# Altium schematic symbol library con-cpci.SCHLIB: 19 symbols (part 1 of 2)
Pins are listed as number, name and electrical type; pins without a type are passive.

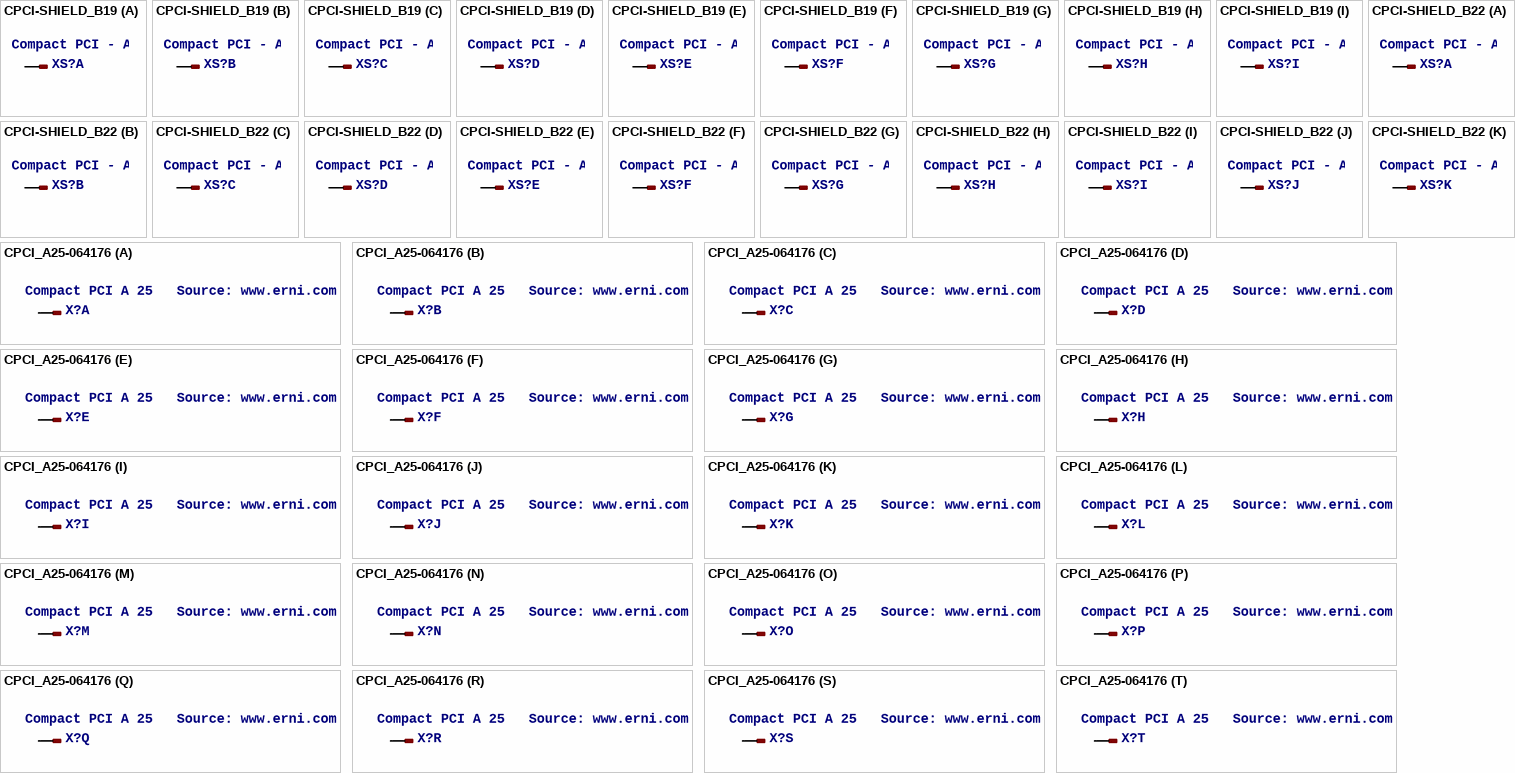
[diagram p0: symbols CPCI-SHIELD_B19 to CPCI_A25-064176]

## CPCI-SHIELD_B19
designator XS?, comment Compact PCI - Abschirmblech unten B 19 / Lower Shield Type B 19   Source: www.erni.com
OC_FARNELL: unknown; OC_NEWARK: unknown
footprint 064782
part A pins: S1 1
part B pins: S2 1
part C pins: S3 1
part D pins: S4 1
part E pins: S5 1
part F pins: S6 1
part G pins: S7 1
part H pins: S8 1
part I pins: S9 1

## CPCI-SHIELD_B22
designator XS?, comment Compact PCI - Abschirmblech unten B 22 / Lower Shield Type B 22   Source: www.erni.com
OC_FARNELL: unknown; OC_NEWARK: unknown
footprint 064783
part A pins: S1 1
part B pins: S2 1
part C pins: S3 1
part D pins: S4 1
part E pins: S5 1
part F pins: S6 1
part G pins: S7 1
part H pins: S8 1
part I pins: S9 1
part J pins: S10 1
part K pins: S11 1

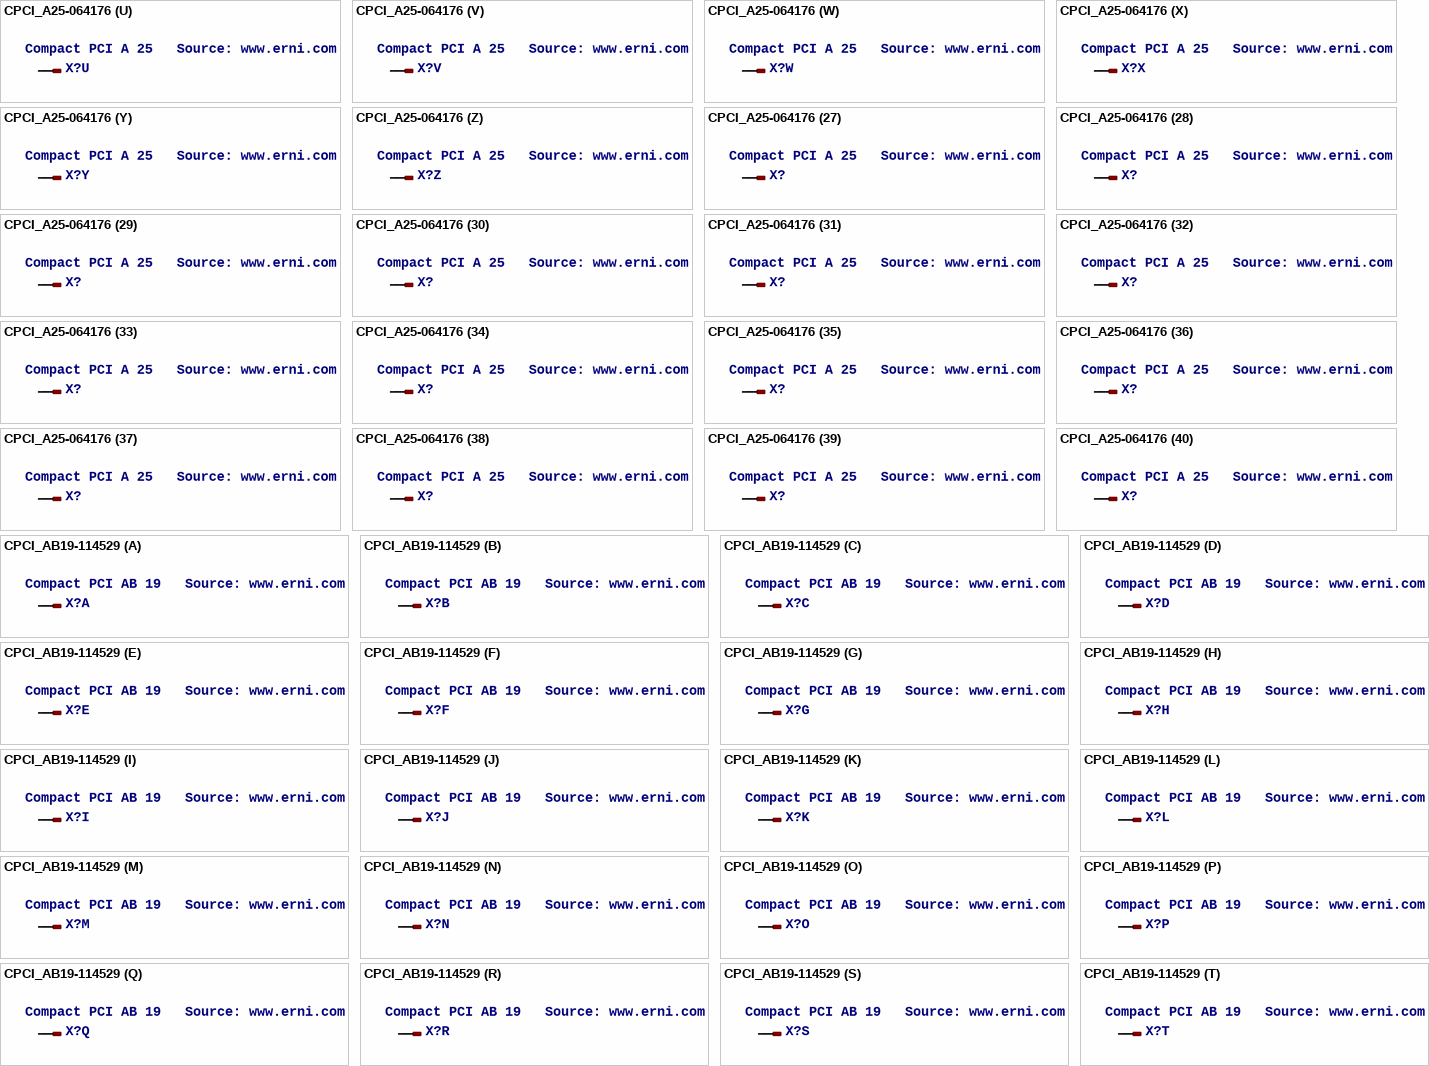
[diagram p1: symbols CPCI_A25-064176 to CPCI_AB19-114529]

## CPCI_A25-064176
designator X?, comment Compact PCI A 25   Source: www.erni.com
OC_FARNELL: unknown; OC_NEWARK: unknown
footprint 064176
part A pins: A1 1
part B pins: B1 1
part C pins: C1 1
part D pins: D1 1
part E pins: E1 1
part F pins: A2 1
part G pins: A3 1
part H pins: A4 1
part I pins: A5 1
part J pins: A6 1
part K pins: A7 1
part L pins: A8 1
part M pins: A9 1
part N pins: A10 1
part O pins: A11 1
part P pins: A15 1
part Q pins: A16 1
part R pins: A17 1
part S pins: A18 1
part T pins: A19 1
part U pins: A20 1
part V pins: A21 1
part W pins: A22 1
part X pins: A23 1
part Y pins: A24 1
part Z pins: A25 1
part 27 pins: B2 1
part 28 pins: B3 1
part 29 pins: B4 1
part 30 pins: B5 1
part 31 pins: B6 1
part 32 pins: B7 1
part 33 pins: B8 1
part 34 pins: B9 1
part 35 pins: B10 1
part 36 pins: B11 1
part 37 pins: B15 1
part 38 pins: B16 1
part 39 pins: B17 1
part 40 pins: B18 1
part 41 pins: B19 1
part 42 pins: B20 1
part 43 pins: B21 1
part 44 pins: B22 1
part 45 pins: B23 1
part 46 pins: B24 1
part 47 pins: B25 1
part 48 pins: C2 1
part 49 pins: C3 1
part 50 pins: C4 1
part 51 pins: C5 1
part 52 pins: C6 1
part 53 pins: C7 1
part 54 pins: C8 1
part 55 pins: C9 1
part 56 pins: C10 1
part 57 pins: C11 1
part 58 pins: C15 1
part 59 pins: C16 1
part 60 pins: C17 1
part 61 pins: C18 1
part 62 pins: C19 1
part 63 pins: C20 1
part 64 pins: C21 1
part 65 pins: C22 1
part 66 pins: C23 1
part 67 pins: C24 1
part 68 pins: C25 1
part 69 pins: D2 1
part 70 pins: D3 1
part 71 pins: D4 1
part 72 pins: D5 1
part 73 pins: D6 1
part 74 pins: D7 1
part 75 pins: D8 1
part 76 pins: D9 1
part 77 pins: D10 1
part 78 pins: D11 1
part 79 pins: D15 1
part 80 pins: D16 1
part 81 pins: D17 1
part 82 pins: D18 1
part 83 pins: D19 1
part 84 pins: D20 1
part 85 pins: D21 1
part 86 pins: D22 1
part 87 pins: D23 1
part 88 pins: D24 1
part 89 pins: D25 1
part 90 pins: E2 1
part 91 pins: E3 1
part 92 pins: E4 1
part 93 pins: E5 1
part 94 pins: E6 1
part 95 pins: E7 1
part 96 pins: E8 1
part 97 pins: E9 1
part 98 pins: E10 1
part 99 pins: E11 1
part 100 pins: E15 1
part 101 pins: E16 1
part 102 pins: E17 1
part 103 pins: E18 1
part 104 pins: E19 1
part 105 pins: E20 1
part 106 pins: E21 1
part 107 pins: E22 1
part 108 pins: E23 1
part 109 pins: E24 1
part 110 pins: E25 1

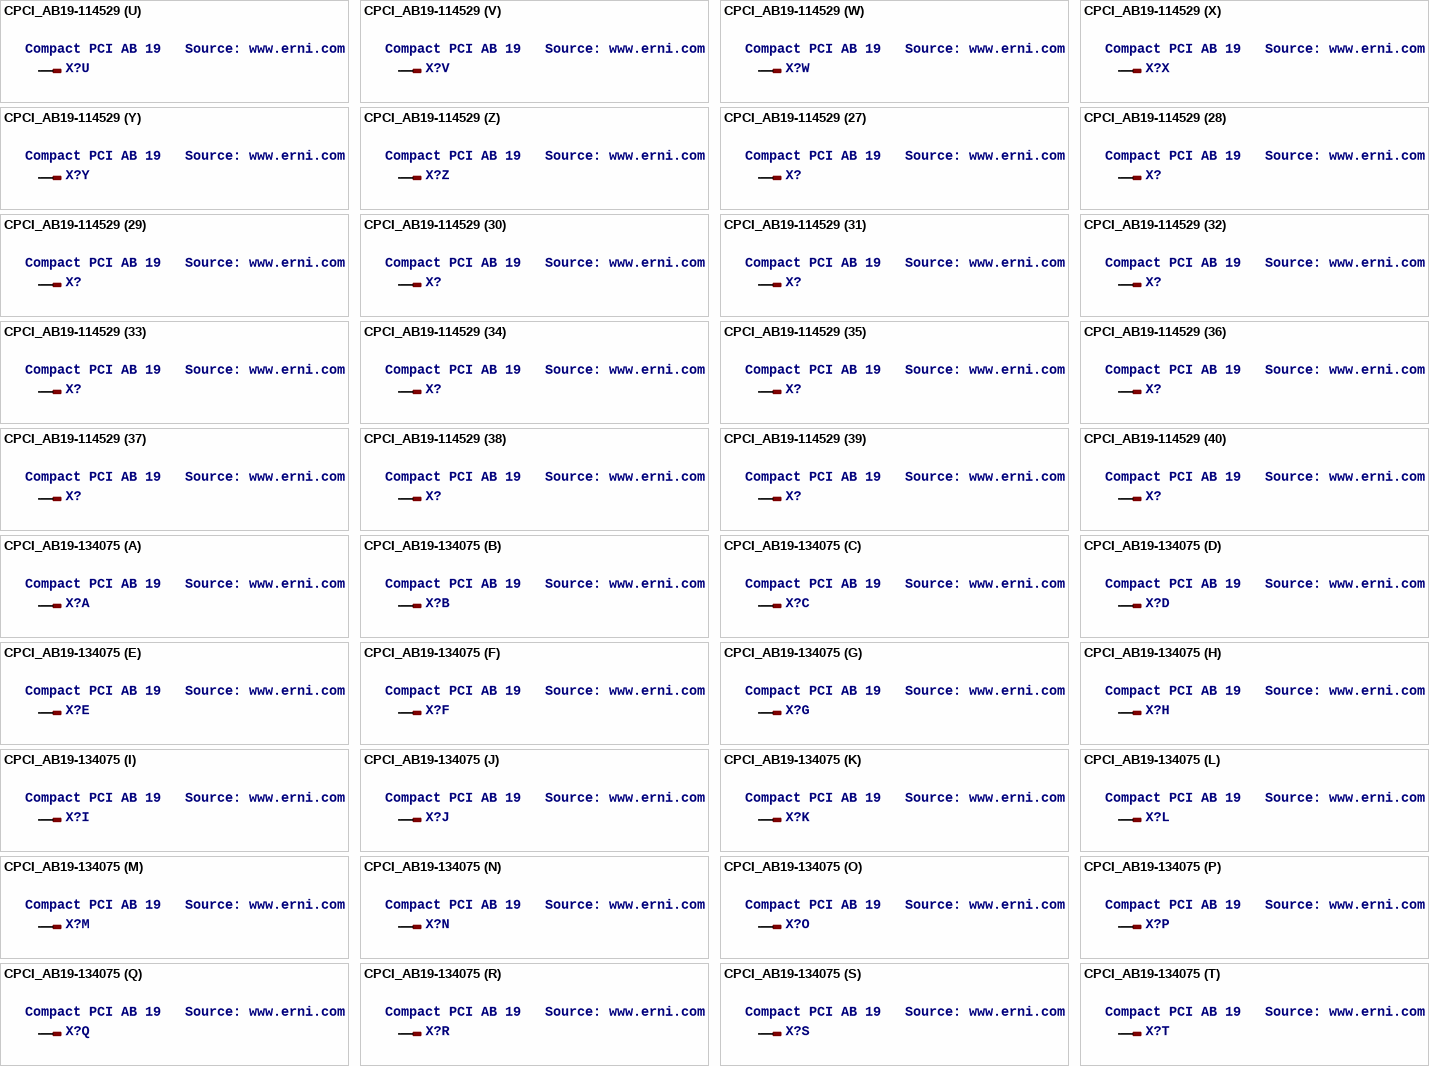
[diagram p2: symbols CPCI_AB19-114529 to CPCI_AB19-134075]

## CPCI_AB19-114529
designator X?, comment Compact PCI AB 19   Source: www.erni.com
OC_FARNELL: unknown; OC_NEWARK: unknown
footprint 114529
part A pins: A1 1
part B pins: B1 1
part C pins: C1 1
part D pins: D1 1
part E pins: E1 1
part F pins: A2 1
part G pins: A3 1
part H pins: A4 1
part I pins: A5 1
part J pins: A6 1
part K pins: A7 1
part L pins: A8 1
part M pins: A9 1
part N pins: A10 1
part O pins: A11 1
part P pins: A12 1
part Q pins: A13 1
part R pins: A14 1
part S pins: A15 1
part T pins: A16 1
part U pins: A17 1
part V pins: A18 1
part W pins: A19 1
part X pins: B2 1
part Y pins: B3 1
part Z pins: B4 1
part 27 pins: B5 1
part 28 pins: B6 1
part 29 pins: B7 1
part 30 pins: B8 1
part 31 pins: B9 1
part 32 pins: B10 1
part 33 pins: B11 1
part 34 pins: B12 1
part 35 pins: B13 1
part 36 pins: B14 1
part 37 pins: B15 1
part 38 pins: B16 1
part 39 pins: B17 1
part 40 pins: B18 1
part 41 pins: B19 1
part 42 pins: C2 1
part 43 pins: C3 1
part 44 pins: C4 1
part 45 pins: C5 1
part 46 pins: C6 1
part 47 pins: C7 1
part 48 pins: C8 1
part 49 pins: C9 1
part 50 pins: C10 1
part 51 pins: C11 1
part 52 pins: C12 1
part 53 pins: C13 1
part 54 pins: C14 1
part 55 pins: C15 1
part 56 pins: C16 1
part 57 pins: C17 1
part 58 pins: C18 1
part 59 pins: C19 1
part 60 pins: D2 1
part 61 pins: D3 1
part 62 pins: D4 1
part 63 pins: D5 1
part 64 pins: D6 1
part 65 pins: D7 1
part 66 pins: D8 1
part 67 pins: D9 1
part 68 pins: D10 1
part 69 pins: D11 1
part 70 pins: D12 1
part 71 pins: D13 1
part 72 pins: D14 1
part 73 pins: D15 1
part 74 pins: D16 1
part 75 pins: D17 1
part 76 pins: D18 1
part 77 pins: D19 1
part 78 pins: E2 1
part 79 pins: E3 1
part 80 pins: E4 1
part 81 pins: E5 1
part 82 pins: E6 1
part 83 pins: E7 1
part 84 pins: E8 1
part 85 pins: E9 1
part 86 pins: E10 1
part 87 pins: E11 1
part 88 pins: E12 1
part 89 pins: E13 1
part 90 pins: E14 1
part 91 pins: E15 1
part 92 pins: E16 1
part 93 pins: E17 1
part 94 pins: E18 1
part 95 pins: E19 1

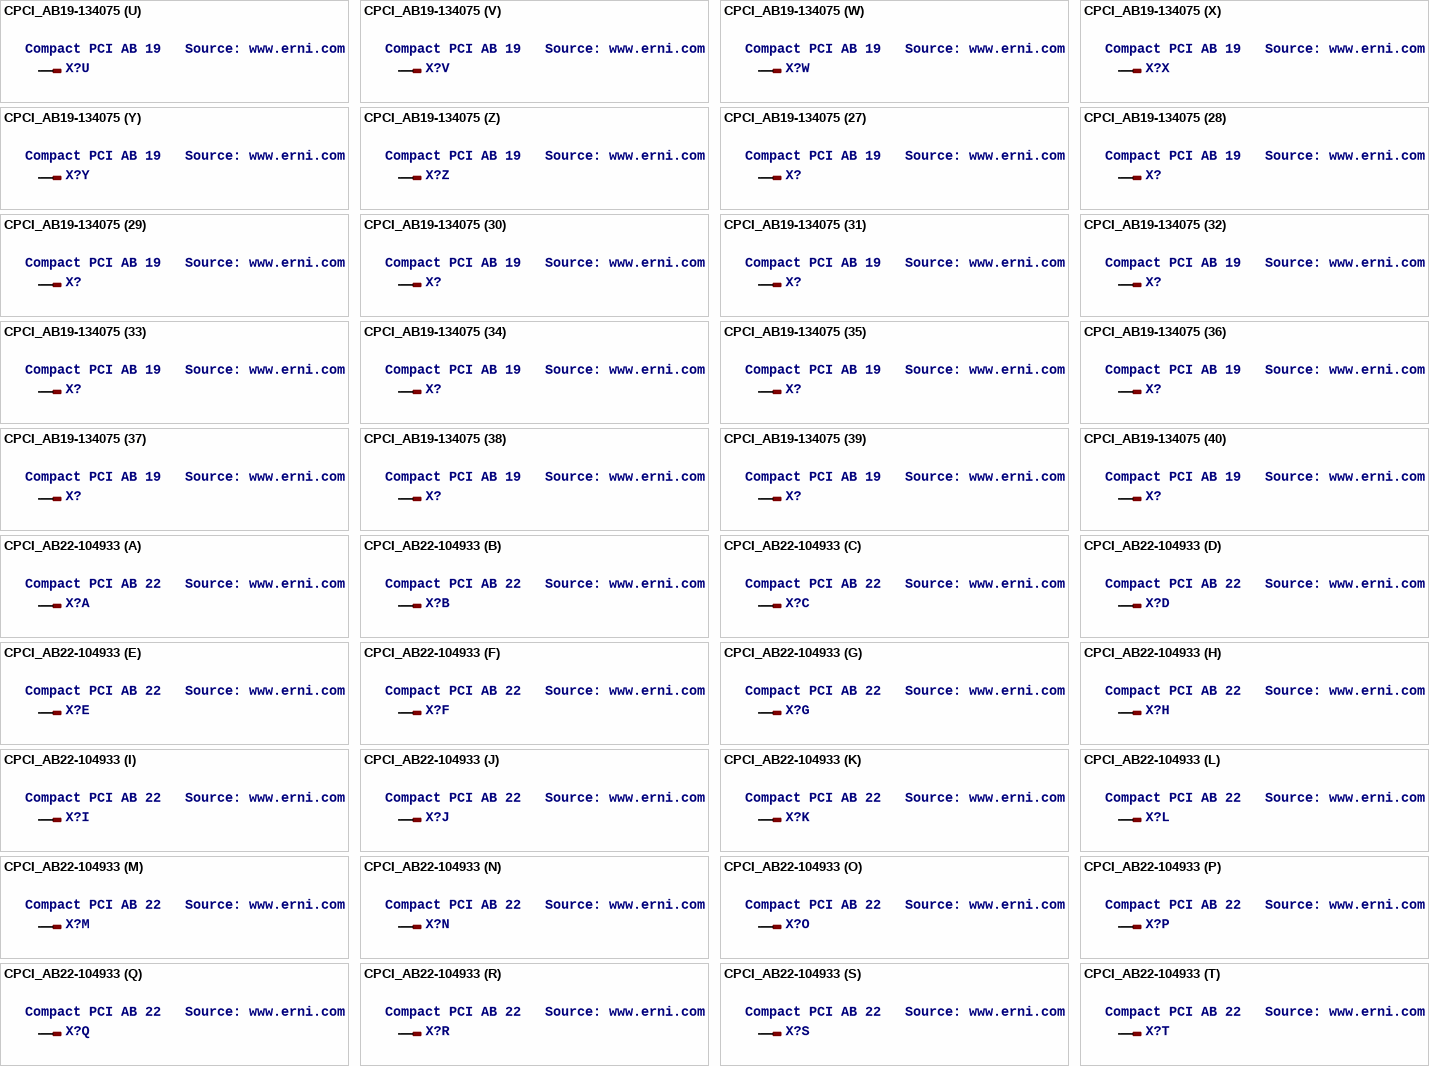
[diagram p3: symbols CPCI_AB19-134075 to CPCI_AB22-104933]

## CPCI_AB19-134075
designator X?, comment Compact PCI AB 19   Source: www.erni.com
OC_FARNELL: unknown; OC_NEWARK: unknown
footprint 134075
part A pins: A1 1
part B pins: B1 1
part C pins: C1 1
part D pins: D1 1
part E pins: E1 1
part F pins: A2 1
part G pins: A3 1
part H pins: A4 1
part I pins: A5 1
part J pins: A6 1
part K pins: A7 1
part L pins: A8 1
part M pins: A9 1
part N pins: A10 1
part O pins: A11 1
part P pins: A12 1
part Q pins: A13 1
part R pins: A14 1
part S pins: A15 1
part T pins: A16 1
part U pins: A17 1
part V pins: A18 1
part W pins: A19 1
part X pins: B2 1
part Y pins: B3 1
part Z pins: B4 1
part 27 pins: B5 1
part 28 pins: B6 1
part 29 pins: B7 1
part 30 pins: B8 1
part 31 pins: B9 1
part 32 pins: B10 1
part 33 pins: B11 1
part 34 pins: B12 1
part 35 pins: B13 1
part 36 pins: B14 1
part 37 pins: B15 1
part 38 pins: B16 1
part 39 pins: B17 1
part 40 pins: B18 1
part 41 pins: B19 1
part 42 pins: C2 1
part 43 pins: C3 1
part 44 pins: C4 1
part 45 pins: C5 1
part 46 pins: C6 1
part 47 pins: C7 1
part 48 pins: C8 1
part 49 pins: C9 1
part 50 pins: C10 1
part 51 pins: C11 1
part 52 pins: C12 1
part 53 pins: C13 1
part 54 pins: C14 1
part 55 pins: C15 1
part 56 pins: C16 1
part 57 pins: C17 1
part 58 pins: C18 1
part 59 pins: C19 1
part 60 pins: D2 1
part 61 pins: D3 1
part 62 pins: D4 1
part 63 pins: D5 1
part 64 pins: D6 1
part 65 pins: D7 1
part 66 pins: D8 1
part 67 pins: D9 1
part 68 pins: D10 1
part 69 pins: D11 1
part 70 pins: D12 1
part 71 pins: D13 1
part 72 pins: D14 1
part 73 pins: D15 1
part 74 pins: D16 1
part 75 pins: D17 1
part 76 pins: D18 1
part 77 pins: D19 1
part 78 pins: E2 1
part 79 pins: E3 1
part 80 pins: E4 1
part 81 pins: E5 1
part 82 pins: E6 1
part 83 pins: E7 1
part 84 pins: E8 1
part 85 pins: E9 1
part 86 pins: E10 1
part 87 pins: E11 1
part 88 pins: E12 1
part 89 pins: E13 1
part 90 pins: E14 1
part 91 pins: E15 1
part 92 pins: E16 1
part 93 pins: E17 1
part 94 pins: E18 1
part 95 pins: E19 1

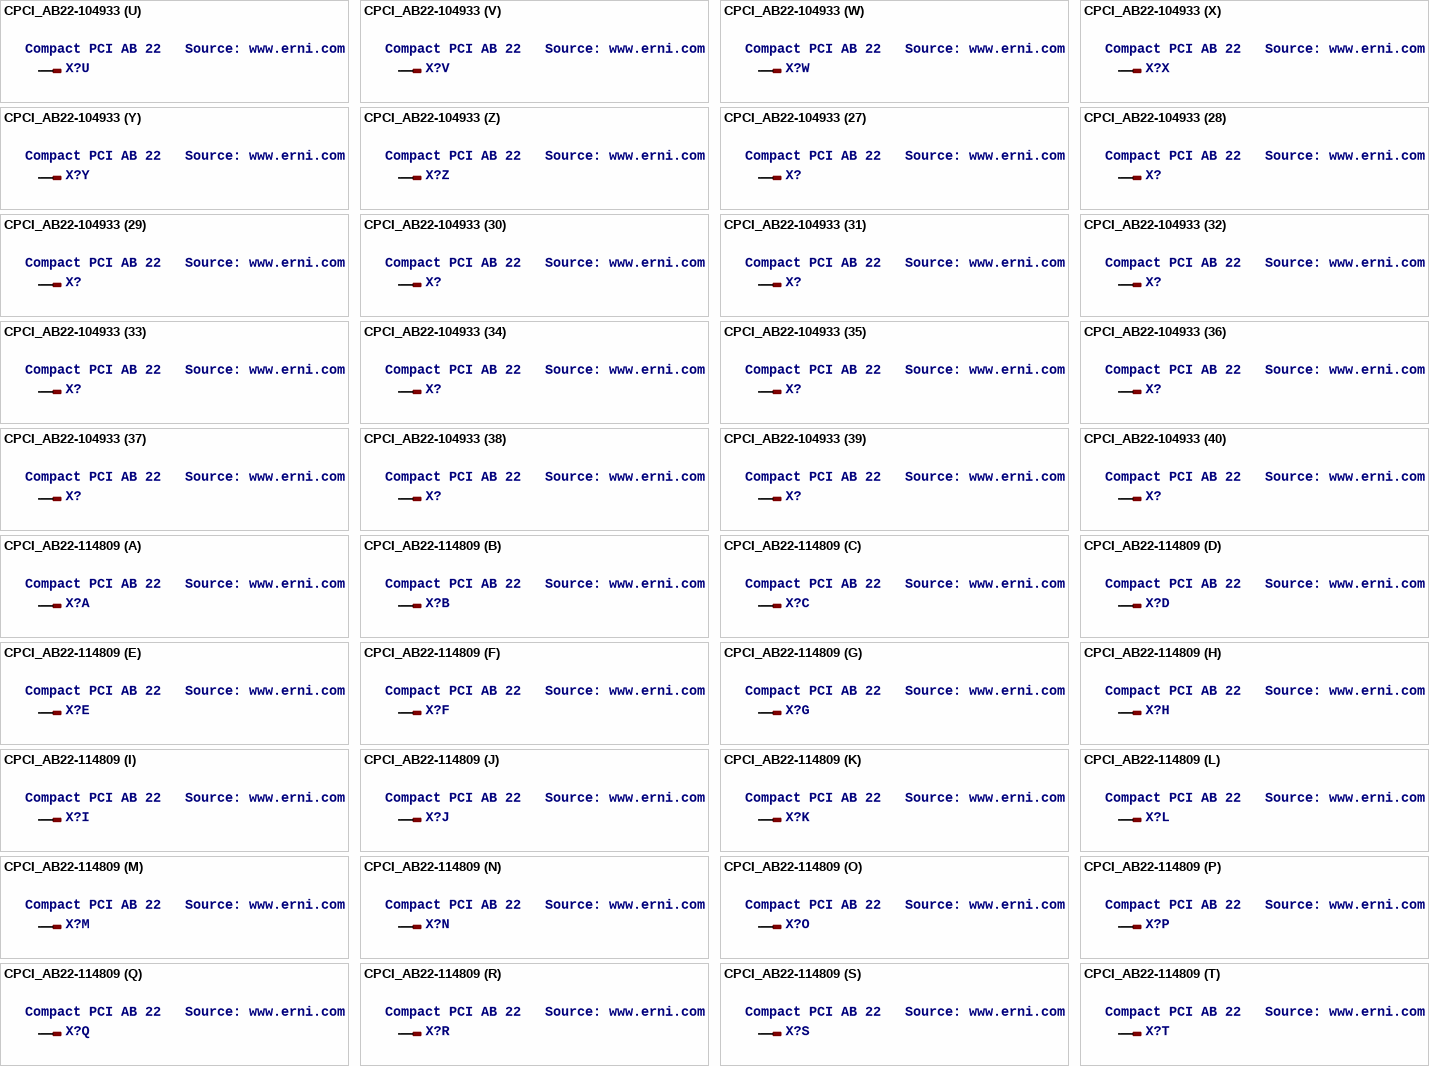
[diagram p4: symbols CPCI_AB22-104933 to CPCI_AB22-114809]

## CPCI_AB22-104933
designator X?, comment Compact PCI AB 22   Source: www.erni.com
OC_FARNELL: unknown; OC_NEWARK: unknown
footprint 104933
part A pins: A1 1
part B pins: B1 1
part C pins: C1 1
part D pins: D1 1
part E pins: E1 1
part F pins: A2 1
part G pins: A3 1
part H pins: A4 1
part I pins: A5 1
part J pins: A6 1
part K pins: A7 1
part L pins: A8 1
part M pins: A9 1
part N pins: A10 1
part O pins: A11 1
part P pins: A12 1
part Q pins: A13 1
part R pins: A14 1
part S pins: A15 1
part T pins: A16 1
part U pins: A17 1
part V pins: A18 1
part W pins: A19 1
part X pins: A20 1
part Y pins: A21 1
part Z pins: A22 1
part 27 pins: B2 1
part 28 pins: B3 1
part 29 pins: B4 1
part 30 pins: B5 1
part 31 pins: B6 1
part 32 pins: B7 1
part 33 pins: B8 1
part 34 pins: B9 1
part 35 pins: B10 1
part 36 pins: B11 1
part 37 pins: B12 1
part 38 pins: B13 1
part 39 pins: B14 1
part 40 pins: B15 1
part 41 pins: B16 1
part 42 pins: B17 1
part 43 pins: B18 1
part 44 pins: B19 1
part 45 pins: B20 1
part 46 pins: B21 1
part 47 pins: B22 1
part 48 pins: C2 1
part 49 pins: C3 1
part 50 pins: C4 1
part 51 pins: C5 1
part 52 pins: C6 1
part 53 pins: C7 1
part 54 pins: C8 1
part 55 pins: C9 1
part 56 pins: C10 1
part 57 pins: C11 1
part 58 pins: C12 1
part 59 pins: C13 1
part 60 pins: C14 1
part 61 pins: C15 1
part 62 pins: C16 1
part 63 pins: C17 1
part 64 pins: C18 1
part 65 pins: C19 1
part 66 pins: C20 1
part 67 pins: C21 1
part 68 pins: C22 1
part 69 pins: D2 1
part 70 pins: D3 1
part 71 pins: D4 1
part 72 pins: D5 1
part 73 pins: D6 1
part 74 pins: D7 1
part 75 pins: D8 1
part 76 pins: D9 1
part 77 pins: D10 1
part 78 pins: D11 1
part 79 pins: D12 1
part 80 pins: D13 1
part 81 pins: D14 1
part 82 pins: D15 1
part 83 pins: D16 1
part 84 pins: D17 1
part 85 pins: D18 1
part 86 pins: D19 1
part 87 pins: D20 1
part 88 pins: D21 1
part 89 pins: D22 1
part 90 pins: E2 1
part 91 pins: E3 1
part 92 pins: E4 1
part 93 pins: E5 1
part 94 pins: E6 1
part 95 pins: E7 1
part 96 pins: E8 1
part 97 pins: E9 1
part 98 pins: E10 1
part 99 pins: E11 1
part 100 pins: E12 1
part 101 pins: E13 1
part 102 pins: E14 1
part 103 pins: E15 1
part 104 pins: E16 1
part 105 pins: E17 1
part 106 pins: E18 1
part 107 pins: E19 1
part 108 pins: E20 1
part 109 pins: E21 1
part 110 pins: E22 1

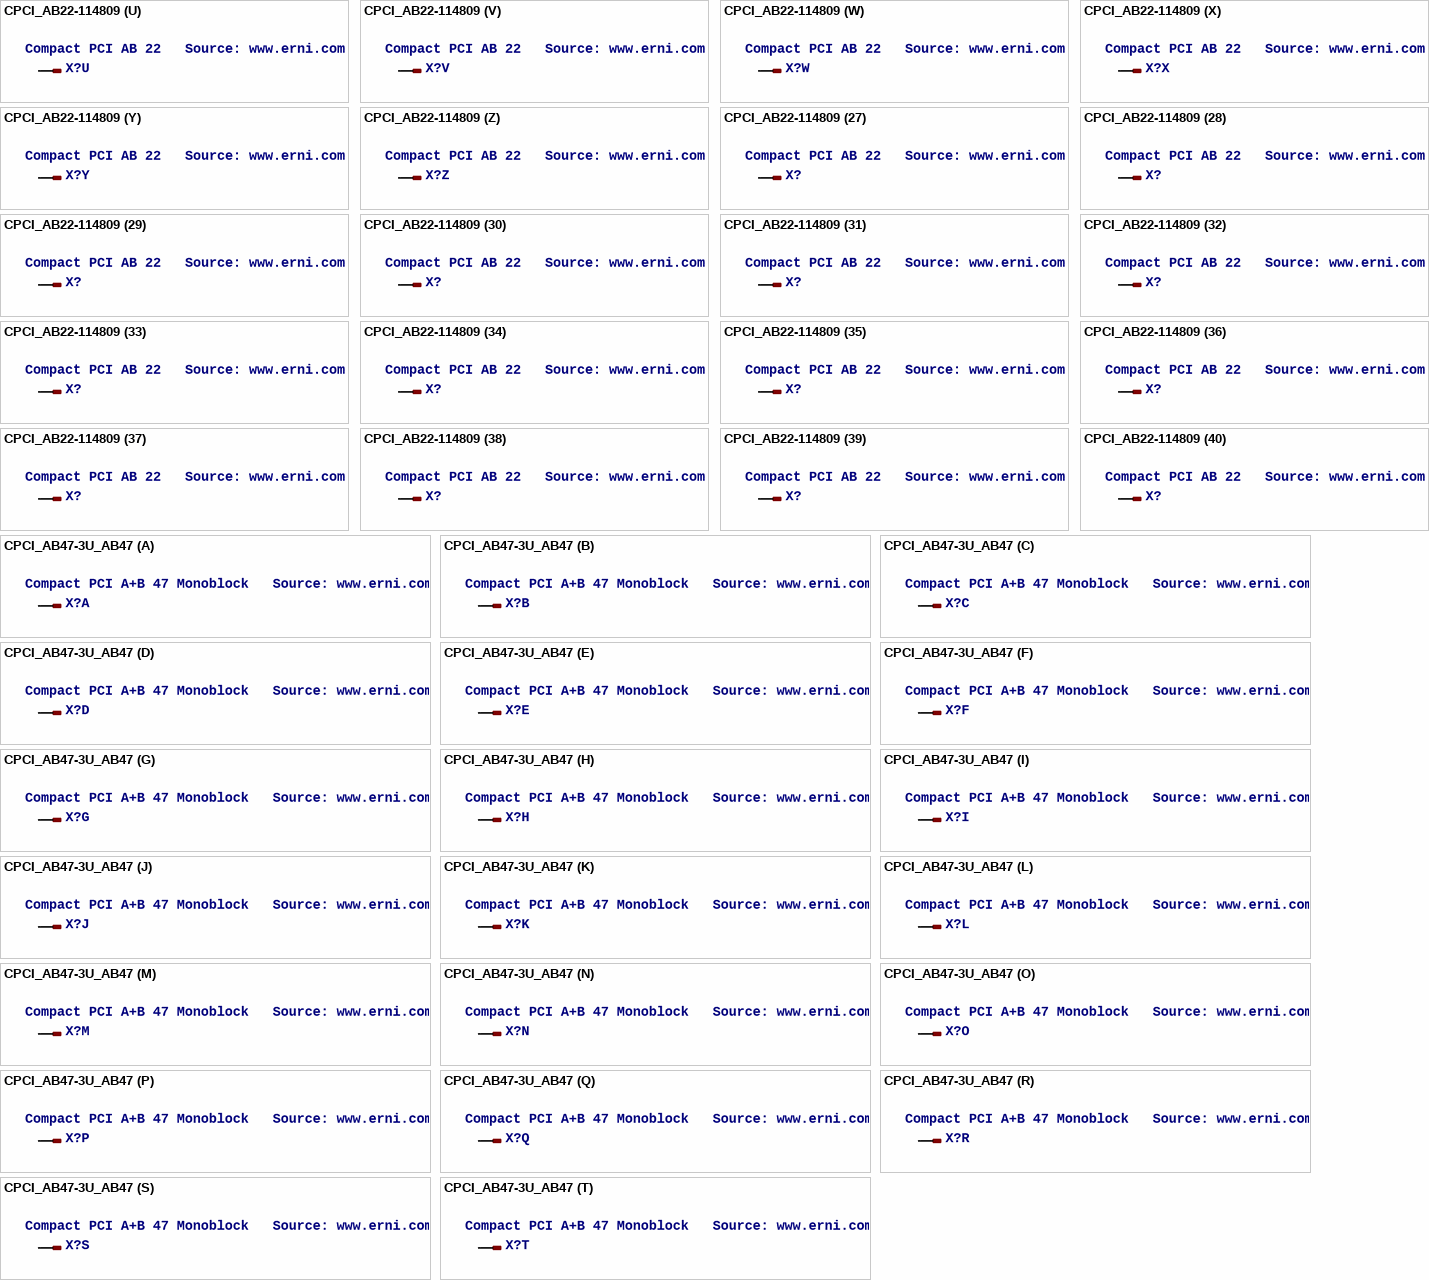
[diagram p5: symbols CPCI_AB22-114809 to CPCI_AB47-3U_AB47]

## CPCI_AB22-114809
designator X?, comment Compact PCI AB 22   Source: www.erni.com
OC_FARNELL: unknown; OC_NEWARK: unknown
footprint 114809
part A pins: A1 1
part B pins: B1 1
part C pins: C1 1
part D pins: D1 1
part E pins: E1 1
part F pins: A2 1
part G pins: A3 1
part H pins: A4 1
part I pins: A5 1
part J pins: A6 1
part K pins: A7 1
part L pins: A8 1
part M pins: A9 1
part N pins: A10 1
part O pins: A11 1
part P pins: A12 1
part Q pins: A13 1
part R pins: A14 1
part S pins: A15 1
part T pins: A16 1
part U pins: A17 1
part V pins: A18 1
part W pins: A19 1
part X pins: A20 1
part Y pins: A21 1
part Z pins: A22 1
part 27 pins: B2 1
part 28 pins: B3 1
part 29 pins: B4 1
part 30 pins: B5 1
part 31 pins: B6 1
part 32 pins: B7 1
part 33 pins: B8 1
part 34 pins: B9 1
part 35 pins: B10 1
part 36 pins: B11 1
part 37 pins: B12 1
part 38 pins: B13 1
part 39 pins: B14 1
part 40 pins: B15 1
part 41 pins: B16 1
part 42 pins: B17 1
part 43 pins: B18 1
part 44 pins: B19 1
part 45 pins: B20 1
part 46 pins: B21 1
part 47 pins: B22 1
part 48 pins: C2 1
part 49 pins: C3 1
part 50 pins: C4 1
part 51 pins: C5 1
part 52 pins: C6 1
part 53 pins: C7 1
part 54 pins: C8 1
part 55 pins: C9 1
part 56 pins: C10 1
part 57 pins: C11 1
part 58 pins: C12 1
part 59 pins: C13 1
part 60 pins: C14 1
part 61 pins: C15 1
part 62 pins: C16 1
part 63 pins: C17 1
part 64 pins: C18 1
part 65 pins: C19 1
part 66 pins: C20 1
part 67 pins: C21 1
part 68 pins: C22 1
part 69 pins: D2 1
part 70 pins: D3 1
part 71 pins: D4 1
part 72 pins: D5 1
part 73 pins: D6 1
part 74 pins: D7 1
part 75 pins: D8 1
part 76 pins: D9 1
part 77 pins: D10 1
part 78 pins: D11 1
part 79 pins: D12 1
part 80 pins: D13 1
part 81 pins: D14 1
part 82 pins: D15 1
part 83 pins: D16 1
part 84 pins: D17 1
part 85 pins: D18 1
part 86 pins: D19 1
part 87 pins: D20 1
part 88 pins: D21 1
part 89 pins: D22 1
part 90 pins: E2 1
part 91 pins: E3 1
part 92 pins: E4 1
part 93 pins: E5 1
part 94 pins: E6 1
part 95 pins: E7 1
part 96 pins: E8 1
part 97 pins: E9 1
part 98 pins: E10 1
part 99 pins: E11 1
part 100 pins: E12 1
part 101 pins: E13 1
part 102 pins: E14 1
part 103 pins: E15 1
part 104 pins: E16 1
part 105 pins: E17 1
part 106 pins: E18 1
part 107 pins: E19 1
part 108 pins: E20 1
part 109 pins: E21 1
part 110 pins: E22 1

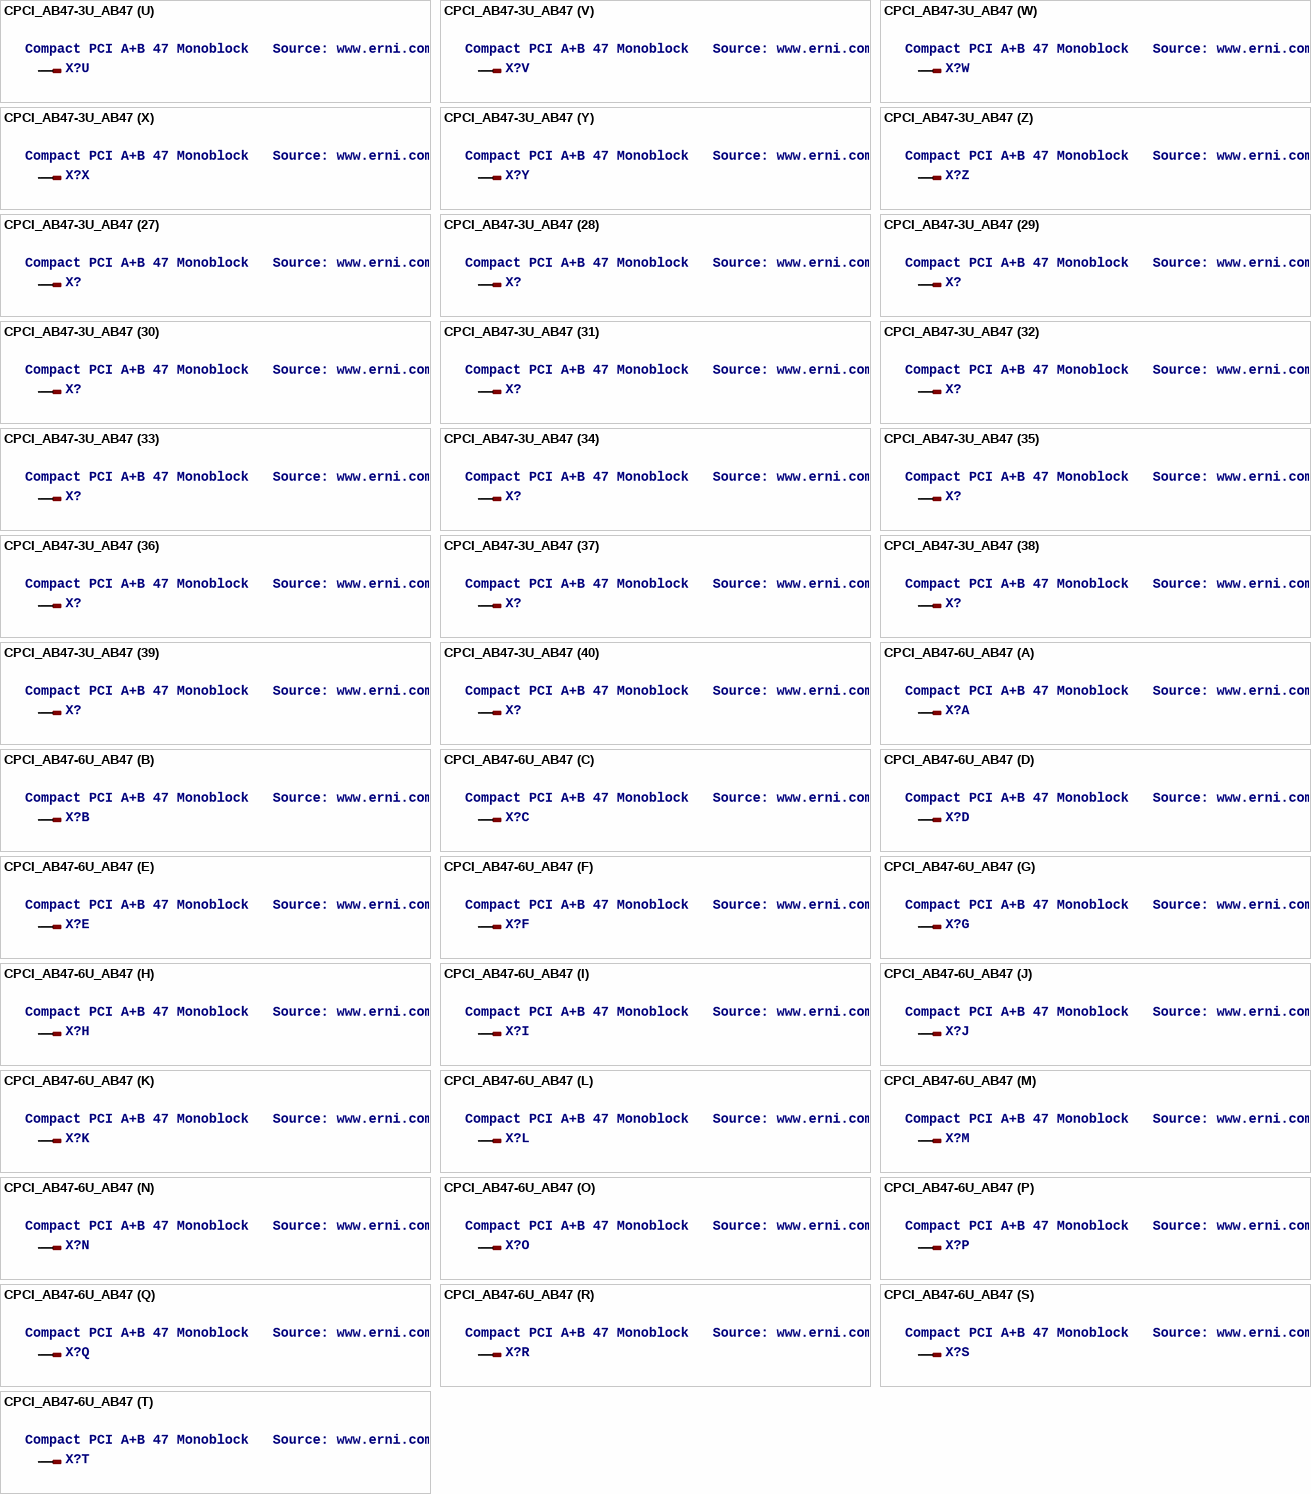
[diagram p6: symbols CPCI_AB47-3U_AB47 to CPCI_AB47-6U_AB47]

## CPCI_AB47-3U_AB47
designator X?, comment Compact PCI A+B 47 Monoblock   Source: www.erni.com
OC_FARNELL: unknown; OC_NEWARK: unknown
footprint CPCI_3U_AB47
part A pins: A1 1
part B pins: A2 1
part C pins: A3 1
part D pins: A4 1
part E pins: A5 1
part F pins: A6 1
part G pins: A7 1
part H pins: A8 1
part I pins: A9 1
part J pins: A10 1
part K pins: A11 1
part L pins: A12 1
part M pins: A13 1
part N pins: A14 1
part O pins: A15 1
part P pins: A16 1
part Q pins: A17 1
part R pins: A18 1
part S pins: A19 1
part T pins: A20 1
part U pins: A21 1
part V pins: A22 1
part W pins: A23 1
part X pins: A24 1
part Y pins: A25 1
part Z pins: A26 1
part 27 pins: A27 1
part 28 pins: A28 1
part 29 pins: A29 1
part 30 pins: A30 1
part 31 pins: A31 1
part 32 pins: A32 1
part 33 pins: A33 1
part 34 pins: A37 1
part 35 pins: A38 1
part 36 pins: A39 1
part 37 pins: A40 1
part 38 pins: A41 1
part 39 pins: A42 1
part 40 pins: A43 1
part 41 pins: A44 1
part 42 pins: A45 1
part 43 pins: A46 1
part 44 pins: A47 1
part 45 pins: B1 1
part 46 pins: C1 1
part 47 pins: D1 1
part 48 pins: E1 1
part 49 pins: B2 1
part 50 pins: B3 1
part 51 pins: B4 1
part 52 pins: B5 1
part 53 pins: B6 1
part 54 pins: B7 1
part 55 pins: B8 1
part 56 pins: B9 1
part 57 pins: B10 1
part 58 pins: B11 1
part 59 pins: B12 1
part 60 pins: B13 1
part 61 pins: B14 1
part 62 pins: B15 1
part 63 pins: B16 1
part 64 pins: B17 1
part 65 pins: B18 1
part 66 pins: B19 1
part 67 pins: B20 1
part 68 pins: B21 1
part 69 pins: B22 1
part 70 pins: B23 1
part 71 pins: B24 1
part 72 pins: B25 1
part 73 pins: B26 1
part 74 pins: B27 1
part 75 pins: B28 1
part 76 pins: B29 1
part 77 pins: B30 1
part 78 pins: B31 1
part 79 pins: B32 1
part 80 pins: B33 1
part 81 pins: B37 1
part 82 pins: B38 1
part 83 pins: B39 1
part 84 pins: B40 1
part 85 pins: B41 1
part 86 pins: B42 1
part 87 pins: B43 1
part 88 pins: B44 1
part 89 pins: B45 1
part 90 pins: B46 1
part 91 pins: B47 1
part 92 pins: C2 1
part 93 pins: C3 1
part 94 pins: C4 1
part 95 pins: C5 1
part 96 pins: C6 1
part 97 pins: C7 1
part 98 pins: C8 1
part 99 pins: C9 1
part 100 pins: C10 1
part 101 pins: C11 1
part 102 pins: C12 1
part 103 pins: C13 1
part 104 pins: C14 1
part 105 pins: C15 1
part 106 pins: C16 1
part 107 pins: C17 1
part 108 pins: C18 1
part 109 pins: C19 1
part 110 pins: C20 1
part 111 pins: C21 1
part 112 pins: C22 1
part 113 pins: C23 1
part 114 pins: C24 1
part 115 pins: C25 1
part 116 pins: C26 1
part 117 pins: C27 1
part 118 pins: C28 1
part 119 pins: C29 1
part 120 pins: C30 1
part 121 pins: C31 1
part 122 pins: C32 1
part 123 pins: C33 1
part 124 pins: C37 1
part 125 pins: C38 1
part 126 pins: C39 1
part 127 pins: C40 1
part 128 pins: C41 1
part 129 pins: C42 1
part 130 pins: C43 1
part 131 pins: C44 1
part 132 pins: C45 1
part 133 pins: C46 1
part 134 pins: C47 1
part 135 pins: D2 1
part 136 pins: D3 1
part 137 pins: D4 1
part 138 pins: D5 1
part 139 pins: D6 1
part 140 pins: D7 1
part 141 pins: D8 1
part 142 pins: D9 1
part 143 pins: D10 1
part 144 pins: D11 1
part 145 pins: D12 1
part 146 pins: D13 1
part 147 pins: D14 1
part 148 pins: D15 1
part 149 pins: D16 1
part 150 pins: D17 1
part 151 pins: D18 1
part 152 pins: D19 1
part 153 pins: D20 1
part 154 pins: D21 1
part 155 pins: D22 1
part 156 pins: D23 1
part 157 pins: D24 1
part 158 pins: D25 1
part 159 pins: D26 1
part 160 pins: D27 1
part 161 pins: D28 1
part 162 pins: D29 1
part 163 pins: D30 1
part 164 pins: D31 1
part 165 pins: D32 1
part 166 pins: D33 1
part 167 pins: D37 1
part 168 pins: D38 1
part 169 pins: D39 1
part 170 pins: D40 1
part 171 pins: D41 1
part 172 pins: D42 1
part 173 pins: D43 1
part 174 pins: D44 1
part 175 pins: D45 1
part 176 pins: D46 1
part 177 pins: D47 1
part 178 pins: E2 1
part 179 pins: E3 1
part 180 pins: E4 1
part 181 pins: E5 1
part 182 pins: E6 1
part 183 pins: E7 1
part 184 pins: E8 1
part 185 pins: E9 1
part 186 pins: E10 1
part 187 pins: E11 1
part 188 pins: E12 1
part 189 pins: E13 1
part 190 pins: E14 1
part 191 pins: E15 1
part 192 pins: E16 1
part 193 pins: E17 1
part 194 pins: E18 1
part 195 pins: E19 1
part 196 pins: E20 1
part 197 pins: E21 1
part 198 pins: E22 1
part 199 pins: E23 1
part 200 pins: E24 1
part 201 pins: E25 1
part 202 pins: E26 1
part 203 pins: E27 1
part 204 pins: E28 1
part 205 pins: E29 1
part 206 pins: E30 1
part 207 pins: E31 1
part 208 pins: E32 1
part 209 pins: E33 1
part 210 pins: E37 1
part 211 pins: E38 1
part 212 pins: E39 1
part 213 pins: E40 1
part 214 pins: E41 1
part 215 pins: E42 1
part 216 pins: E43 1
part 217 pins: E44 1
part 218 pins: E45 1
part 219 pins: E46 1
part 220 pins: E47 1

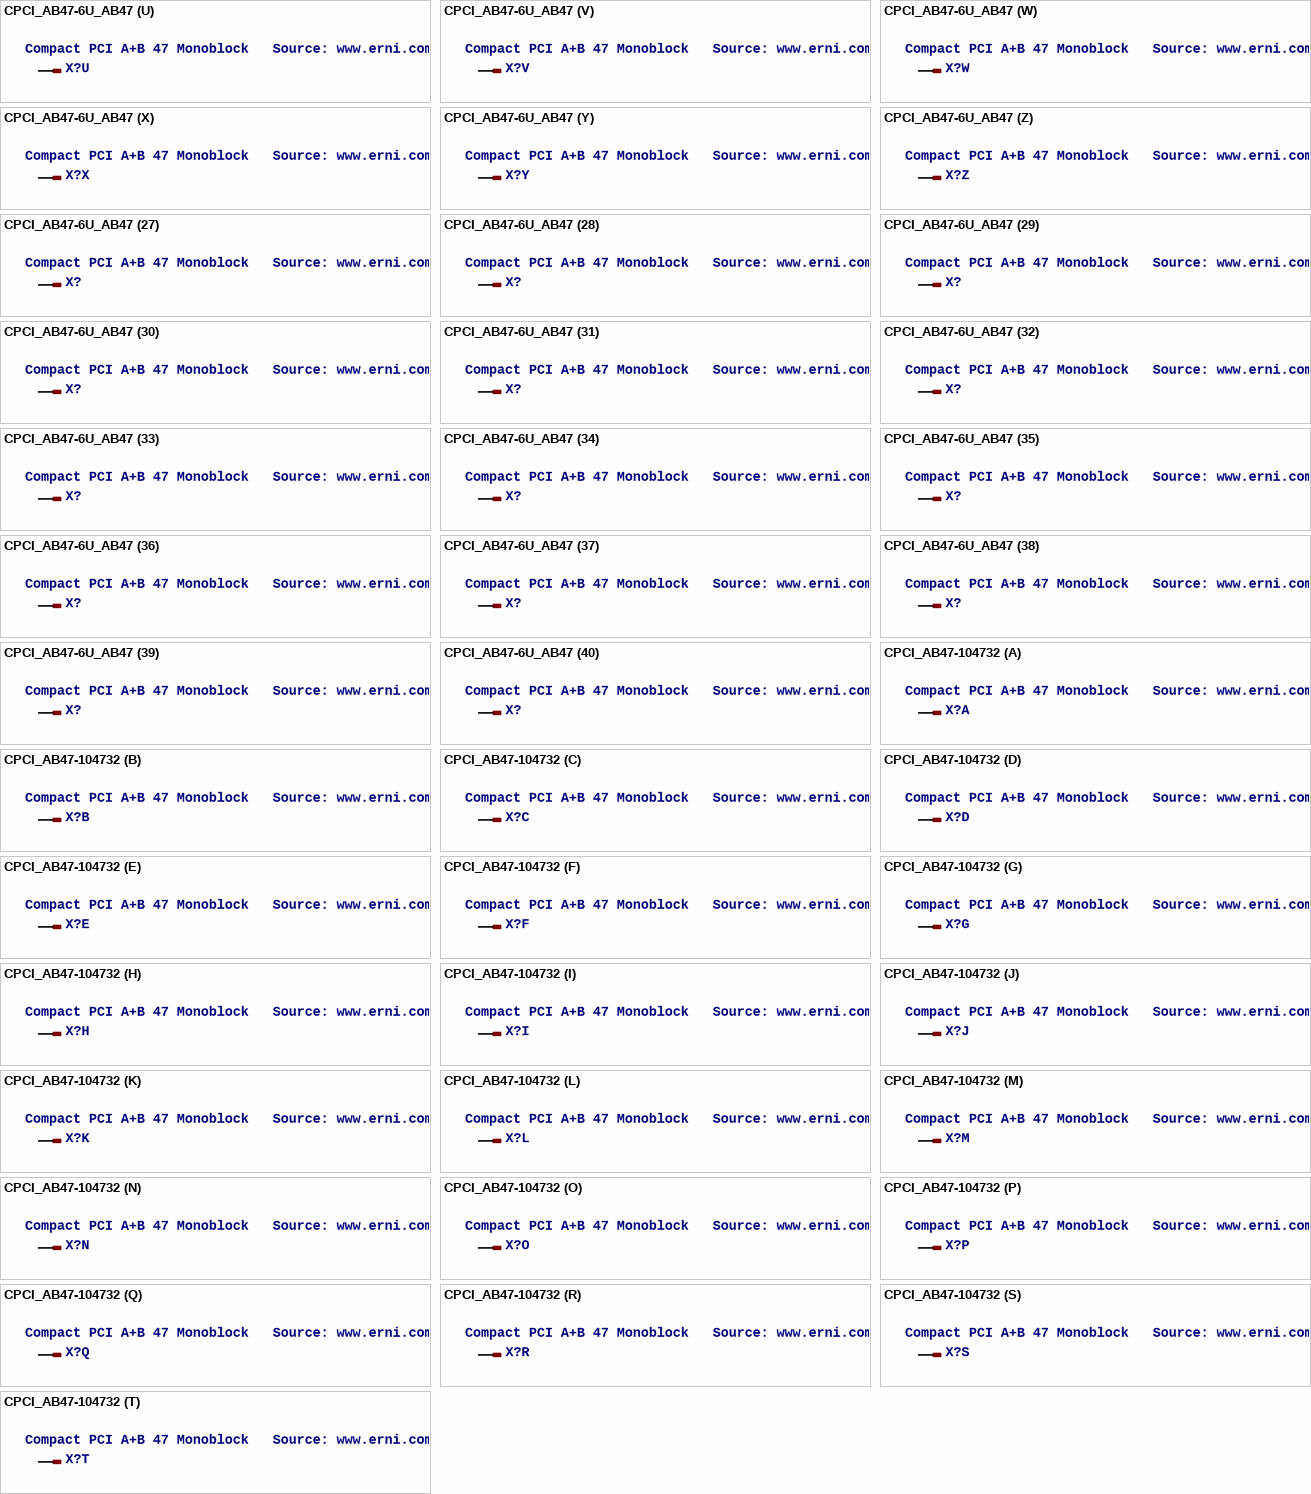
[diagram p7: symbols CPCI_AB47-6U_AB47 to CPCI_AB47-104732]

## CPCI_AB47-6U_AB47
designator X?, comment Compact PCI A+B 47 Monoblock   Source: www.erni.com
OC_FARNELL: unknown; OC_NEWARK: unknown
footprint CPCI_6U_AB47
part A pins: A1 1
part B pins: A2 1
part C pins: A3 1
part D pins: A4 1
part E pins: A5 1
part F pins: A6 1
part G pins: A7 1
part H pins: A8 1
part I pins: A9 1
part J pins: A10 1
part K pins: A11 1
part L pins: A12 1
part M pins: A13 1
part N pins: A14 1
part O pins: A15 1
part P pins: A16 1
part Q pins: A17 1
part R pins: A18 1
part S pins: A19 1
part T pins: A20 1
part U pins: A21 1
part V pins: A22 1
part W pins: A23 1
part X pins: A24 1
part Y pins: A25 1
part Z pins: A26 1
part 27 pins: A27 1
part 28 pins: A28 1
part 29 pins: A29 1
part 30 pins: A30 1
part 31 pins: A31 1
part 32 pins: A32 1
part 33 pins: A33 1
part 34 pins: A37 1
part 35 pins: A38 1
part 36 pins: A39 1
part 37 pins: A40 1
part 38 pins: A41 1
part 39 pins: A42 1
part 40 pins: A43 1
part 41 pins: A44 1
part 42 pins: A45 1
part 43 pins: A46 1
part 44 pins: A47 1
part 45 pins: B1 1
part 46 pins: C1 1
part 47 pins: D1 1
part 48 pins: E1 1
part 49 pins: B2 1
part 50 pins: B3 1
part 51 pins: B4 1
part 52 pins: B5 1
part 53 pins: B6 1
part 54 pins: B7 1
part 55 pins: B8 1
part 56 pins: B9 1
part 57 pins: B10 1
part 58 pins: B11 1
part 59 pins: B12 1
part 60 pins: B13 1
part 61 pins: B14 1
part 62 pins: B15 1
part 63 pins: B16 1
part 64 pins: B17 1
part 65 pins: B18 1
part 66 pins: B19 1
part 67 pins: B20 1
part 68 pins: B21 1
part 69 pins: B22 1
part 70 pins: B23 1
part 71 pins: B24 1
part 72 pins: B25 1
part 73 pins: B26 1
part 74 pins: B27 1
part 75 pins: B28 1
part 76 pins: B29 1
part 77 pins: B30 1
part 78 pins: B31 1
part 79 pins: B32 1
part 80 pins: B33 1
part 81 pins: B37 1
part 82 pins: B38 1
part 83 pins: B39 1
part 84 pins: B40 1
part 85 pins: B41 1
part 86 pins: B42 1
part 87 pins: B43 1
part 88 pins: B44 1
part 89 pins: B45 1
part 90 pins: B46 1
part 91 pins: B47 1
part 92 pins: C2 1
part 93 pins: C3 1
part 94 pins: C4 1
part 95 pins: C5 1
part 96 pins: C6 1
part 97 pins: C7 1
part 98 pins: C8 1
part 99 pins: C9 1
part 100 pins: C10 1
part 101 pins: C11 1
part 102 pins: C12 1
part 103 pins: C13 1
part 104 pins: C14 1
part 105 pins: C15 1
part 106 pins: C16 1
part 107 pins: C17 1
part 108 pins: C18 1
part 109 pins: C19 1
part 110 pins: C20 1
part 111 pins: C21 1
part 112 pins: C22 1
part 113 pins: C23 1
part 114 pins: C24 1
part 115 pins: C25 1
part 116 pins: C26 1
part 117 pins: C27 1
part 118 pins: C28 1
part 119 pins: C29 1
part 120 pins: C30 1
part 121 pins: C31 1
part 122 pins: C32 1
part 123 pins: C33 1
part 124 pins: C37 1
part 125 pins: C38 1
part 126 pins: C39 1
part 127 pins: C40 1
part 128 pins: C41 1
part 129 pins: C42 1
part 130 pins: C43 1
part 131 pins: C44 1
part 132 pins: C45 1
part 133 pins: C46 1
part 134 pins: C47 1
part 135 pins: D2 1
part 136 pins: D3 1
part 137 pins: D4 1
part 138 pins: D5 1
part 139 pins: D6 1
part 140 pins: D7 1
part 141 pins: D8 1
part 142 pins: D9 1
part 143 pins: D10 1
part 144 pins: D11 1
part 145 pins: D12 1
part 146 pins: D13 1
part 147 pins: D14 1
part 148 pins: D15 1
part 149 pins: D16 1
part 150 pins: D17 1
part 151 pins: D18 1
part 152 pins: D19 1
part 153 pins: D20 1
part 154 pins: D21 1
part 155 pins: D22 1
part 156 pins: D23 1
part 157 pins: D24 1
part 158 pins: D25 1
part 159 pins: D26 1
part 160 pins: D27 1
part 161 pins: D28 1
part 162 pins: D29 1
part 163 pins: D30 1
part 164 pins: D31 1
part 165 pins: D32 1
part 166 pins: D33 1
part 167 pins: D37 1
part 168 pins: D38 1
part 169 pins: D39 1
part 170 pins: D40 1
part 171 pins: D41 1
part 172 pins: D42 1
part 173 pins: D43 1
part 174 pins: D44 1
part 175 pins: D45 1
part 176 pins: D46 1
part 177 pins: D47 1
part 178 pins: E2 1
part 179 pins: E3 1
part 180 pins: E4 1
part 181 pins: E5 1
part 182 pins: E6 1
part 183 pins: E7 1
part 184 pins: E8 1
part 185 pins: E9 1
part 186 pins: E10 1
part 187 pins: E11 1
part 188 pins: E12 1
part 189 pins: E13 1
part 190 pins: E14 1
part 191 pins: E15 1
part 192 pins: E16 1
part 193 pins: E17 1
part 194 pins: E18 1
part 195 pins: E19 1
part 196 pins: E20 1
part 197 pins: E21 1
part 198 pins: E22 1
part 199 pins: E23 1
part 200 pins: E24 1
part 201 pins: E25 1
part 202 pins: E26 1
part 203 pins: E27 1
part 204 pins: E28 1
part 205 pins: E29 1
part 206 pins: E30 1
part 207 pins: E31 1
part 208 pins: E32 1
part 209 pins: E33 1
part 210 pins: E37 1
part 211 pins: E38 1
part 212 pins: E39 1
part 213 pins: E40 1
part 214 pins: E41 1
part 215 pins: E42 1
part 216 pins: E43 1
part 217 pins: E44 1
part 218 pins: E45 1
part 219 pins: E46 1
part 220 pins: E47 1

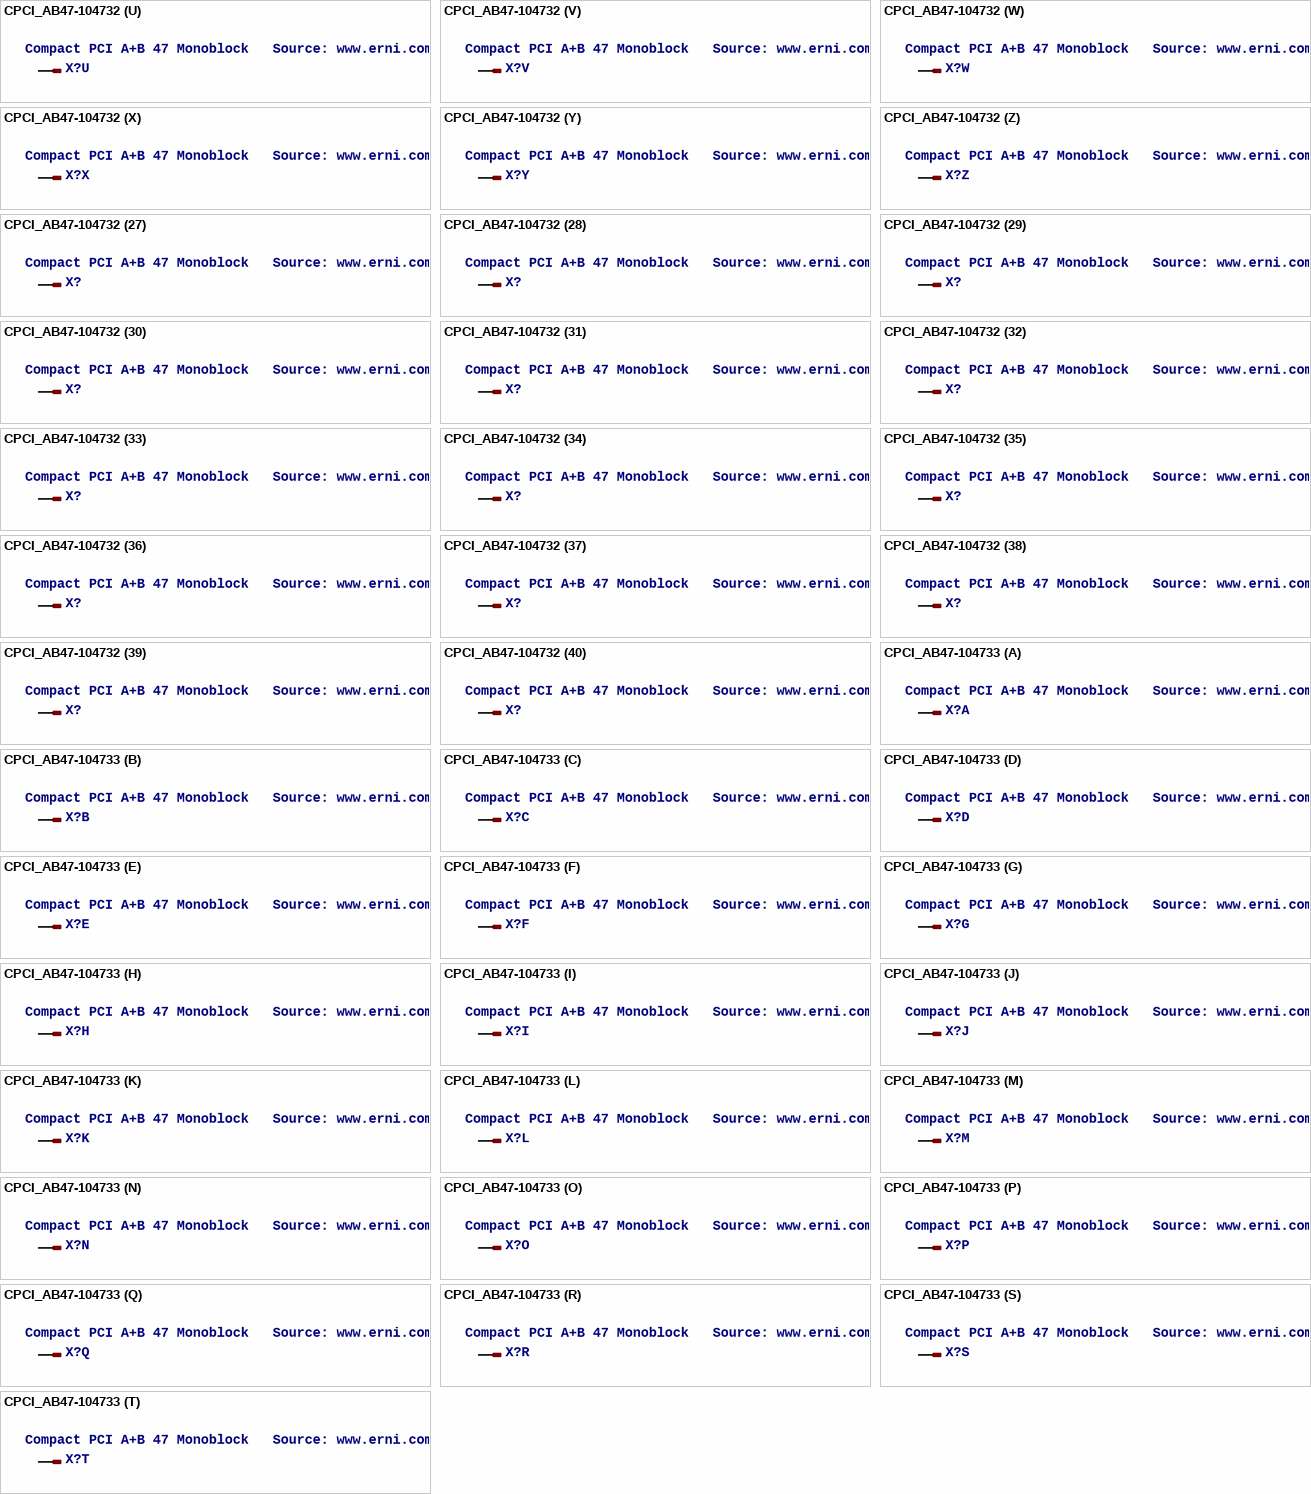
[diagram p8: symbols CPCI_AB47-104732 to CPCI_AB47-104733]

## CPCI_AB47-104732
designator X?, comment Compact PCI A+B 47 Monoblock   Source: www.erni.com
OC_FARNELL: unknown; OC_NEWARK: unknown
footprint 104732
part A pins: A1 1
part B pins: A2 1
part C pins: A3 1
part D pins: A4 1
part E pins: A5 1
part F pins: A6 1
part G pins: A7 1
part H pins: A8 1
part I pins: A9 1
part J pins: A10 1
part K pins: A11 1
part L pins: A12 1
part M pins: A13 1
part N pins: A14 1
part O pins: A15 1
part P pins: A16 1
part Q pins: A17 1
part R pins: A18 1
part S pins: A19 1
part T pins: A20 1
part U pins: A21 1
part V pins: A22 1
part W pins: A23 1
part X pins: A24 1
part Y pins: A25 1
part Z pins: A26 1
part 27 pins: A27 1
part 28 pins: A28 1
part 29 pins: A29 1
part 30 pins: A30 1
part 31 pins: A31 1
part 32 pins: A32 1
part 33 pins: A33 1
part 34 pins: A37 1
part 35 pins: A38 1
part 36 pins: A39 1
part 37 pins: A40 1
part 38 pins: A41 1
part 39 pins: A42 1
part 40 pins: A43 1
part 41 pins: A44 1
part 42 pins: A45 1
part 43 pins: A46 1
part 44 pins: A47 1
part 45 pins: B1 1
part 46 pins: C1 1
part 47 pins: D1 1
part 48 pins: E1 1
part 49 pins: B2 1
part 50 pins: B3 1
part 51 pins: B4 1
part 52 pins: B5 1
part 53 pins: B6 1
part 54 pins: B7 1
part 55 pins: B8 1
part 56 pins: B9 1
part 57 pins: B10 1
part 58 pins: B11 1
part 59 pins: B12 1
part 60 pins: B13 1
part 61 pins: B14 1
part 62 pins: B15 1
part 63 pins: B16 1
part 64 pins: B17 1
part 65 pins: B18 1
part 66 pins: B19 1
part 67 pins: B20 1
part 68 pins: B21 1
part 69 pins: B22 1
part 70 pins: B23 1
part 71 pins: B24 1
part 72 pins: B25 1
part 73 pins: B26 1
part 74 pins: B27 1
part 75 pins: B28 1
part 76 pins: B29 1
part 77 pins: B30 1
part 78 pins: B31 1
part 79 pins: B32 1
part 80 pins: B33 1
part 81 pins: B37 1
part 82 pins: B38 1
part 83 pins: B39 1
part 84 pins: B40 1
part 85 pins: B41 1
part 86 pins: B42 1
part 87 pins: B43 1
part 88 pins: B44 1
part 89 pins: B45 1
part 90 pins: B46 1
part 91 pins: B47 1
part 92 pins: C2 1
part 93 pins: C3 1
part 94 pins: C4 1
part 95 pins: C5 1
part 96 pins: C6 1
part 97 pins: C7 1
part 98 pins: C8 1
part 99 pins: C9 1
part 100 pins: C10 1
part 101 pins: C11 1
part 102 pins: C12 1
part 103 pins: C13 1
part 104 pins: C14 1
part 105 pins: C15 1
part 106 pins: C16 1
part 107 pins: C17 1
part 108 pins: C18 1
part 109 pins: C19 1
part 110 pins: C20 1
part 111 pins: C21 1
part 112 pins: C22 1
part 113 pins: C23 1
part 114 pins: C24 1
part 115 pins: C25 1
part 116 pins: C26 1
part 117 pins: C27 1
part 118 pins: C28 1
part 119 pins: C29 1
part 120 pins: C30 1
part 121 pins: C31 1
part 122 pins: C32 1
part 123 pins: C33 1
part 124 pins: C37 1
part 125 pins: C38 1
part 126 pins: C39 1
part 127 pins: C40 1
part 128 pins: C41 1
part 129 pins: C42 1
part 130 pins: C43 1
part 131 pins: C44 1
part 132 pins: C45 1
part 133 pins: C46 1
part 134 pins: C47 1
part 135 pins: D2 1
part 136 pins: D3 1
part 137 pins: D4 1
part 138 pins: D5 1
part 139 pins: D6 1
part 140 pins: D7 1
part 141 pins: D8 1
part 142 pins: D9 1
part 143 pins: D10 1
part 144 pins: D11 1
part 145 pins: D12 1
part 146 pins: D13 1
part 147 pins: D14 1
part 148 pins: D15 1
part 149 pins: D16 1
part 150 pins: D17 1
part 151 pins: D18 1
part 152 pins: D19 1
part 153 pins: D20 1
part 154 pins: D21 1
part 155 pins: D22 1
part 156 pins: D23 1
part 157 pins: D24 1
part 158 pins: D25 1
part 159 pins: D26 1
part 160 pins: D27 1
part 161 pins: D28 1
part 162 pins: D29 1
part 163 pins: D30 1
part 164 pins: D31 1
part 165 pins: D32 1
part 166 pins: D33 1
part 167 pins: D37 1
part 168 pins: D38 1
part 169 pins: D39 1
part 170 pins: D40 1
part 171 pins: D41 1
part 172 pins: D42 1
part 173 pins: D43 1
part 174 pins: D44 1
part 175 pins: D45 1
part 176 pins: D46 1
part 177 pins: D47 1
part 178 pins: E2 1
part 179 pins: E3 1
part 180 pins: E4 1
part 181 pins: E5 1
part 182 pins: E6 1
part 183 pins: E7 1
part 184 pins: E8 1
part 185 pins: E9 1
part 186 pins: E10 1
part 187 pins: E11 1
part 188 pins: E12 1
part 189 pins: E13 1
part 190 pins: E14 1
part 191 pins: E15 1
part 192 pins: E16 1
part 193 pins: E17 1
part 194 pins: E18 1
part 195 pins: E19 1
part 196 pins: E20 1
part 197 pins: E21 1
part 198 pins: E22 1
part 199 pins: E23 1
part 200 pins: E24 1
part 201 pins: E25 1
part 202 pins: E26 1
part 203 pins: E27 1
part 204 pins: E28 1
part 205 pins: E29 1
part 206 pins: E30 1
part 207 pins: E31 1
part 208 pins: E32 1
part 209 pins: E33 1
part 210 pins: E37 1
part 211 pins: E38 1
part 212 pins: E39 1
part 213 pins: E40 1
part 214 pins: E41 1
part 215 pins: E42 1
part 216 pins: E43 1
part 217 pins: E44 1
part 218 pins: E45 1
part 219 pins: E46 1
part 220 pins: E47 1

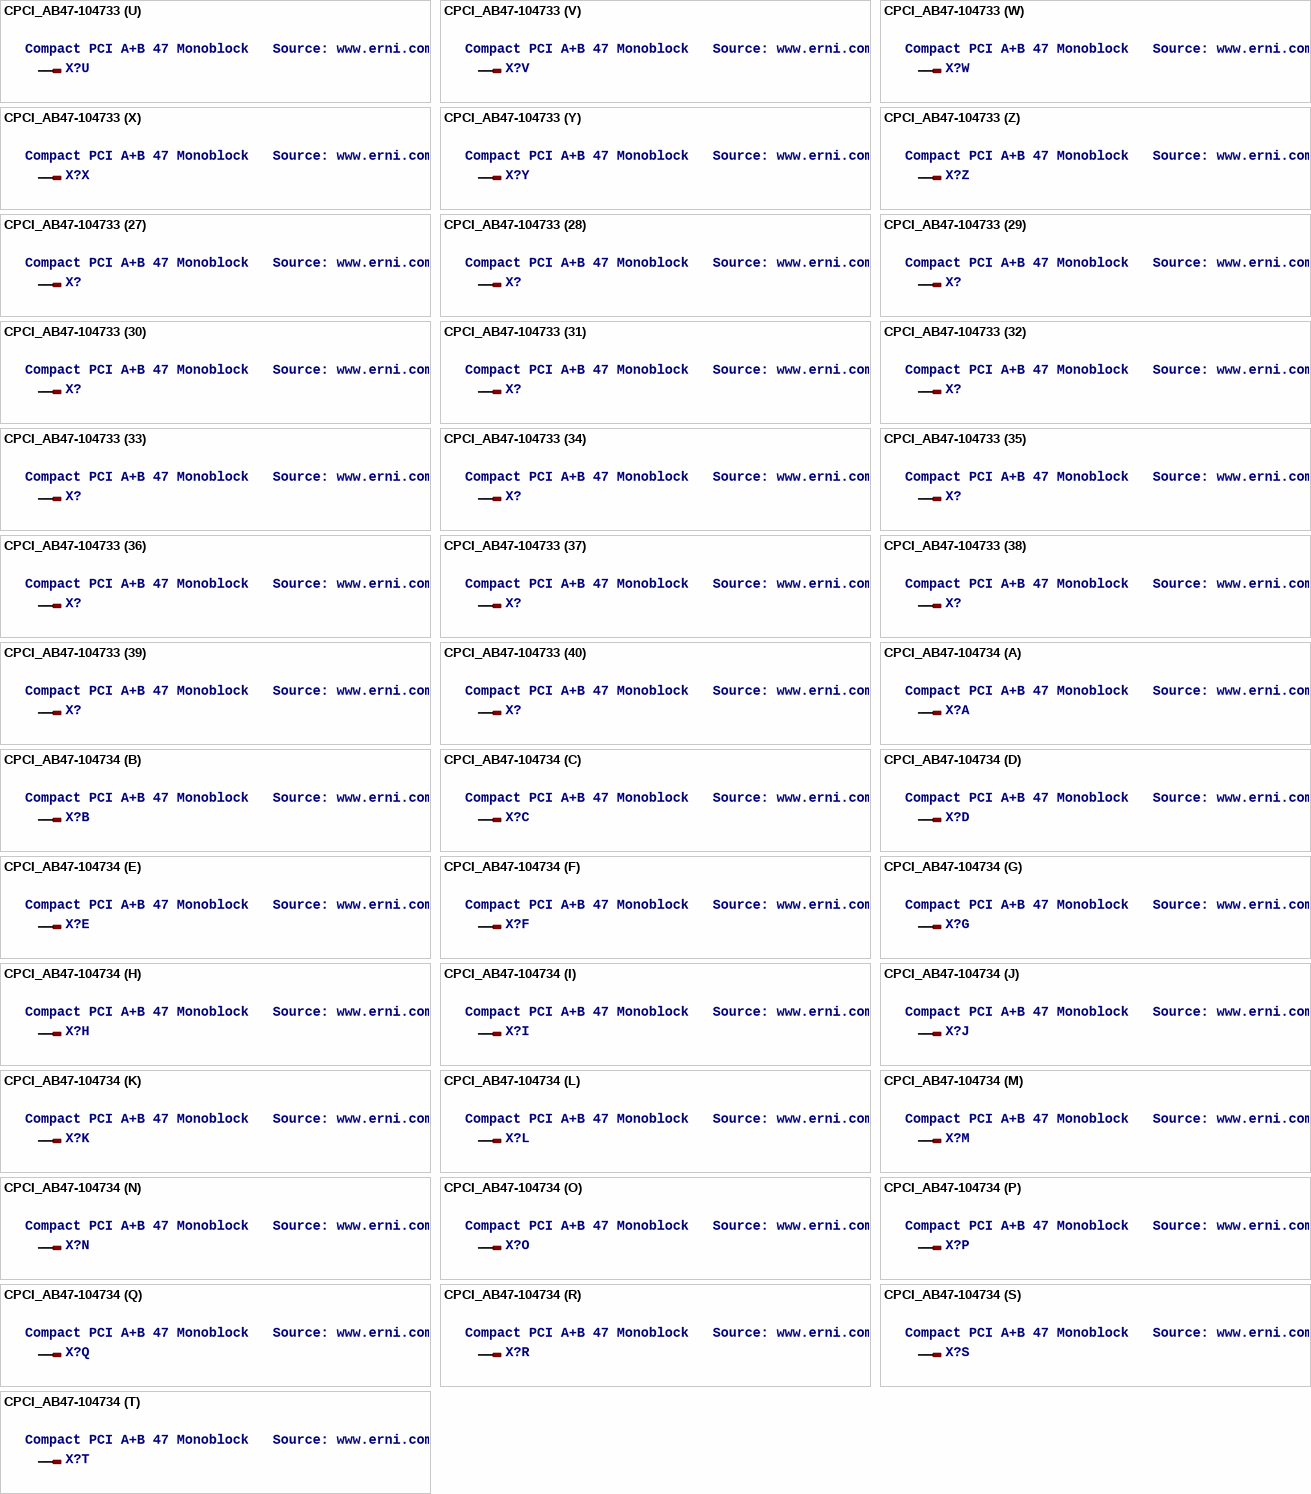
[diagram p9: symbols CPCI_AB47-104733 to CPCI_AB47-104734]

## CPCI_AB47-104733
designator X?, comment Compact PCI A+B 47 Monoblock   Source: www.erni.com
OC_FARNELL: unknown; OC_NEWARK: unknown
footprint 104733
part A pins: A1 1
part B pins: A2 1
part C pins: A3 1
part D pins: A4 1
part E pins: A5 1
part F pins: A6 1
part G pins: A7 1
part H pins: A8 1
part I pins: A9 1
part J pins: A10 1
part K pins: A11 1
part L pins: A12 1
part M pins: A13 1
part N pins: A14 1
part O pins: A15 1
part P pins: A16 1
part Q pins: A17 1
part R pins: A18 1
part S pins: A19 1
part T pins: A20 1
part U pins: A21 1
part V pins: A22 1
part W pins: A23 1
part X pins: A24 1
part Y pins: A25 1
part Z pins: A26 1
part 27 pins: A27 1
part 28 pins: A28 1
part 29 pins: A29 1
part 30 pins: A30 1
part 31 pins: A31 1
part 32 pins: A32 1
part 33 pins: A33 1
part 34 pins: A37 1
part 35 pins: A38 1
part 36 pins: A39 1
part 37 pins: A40 1
part 38 pins: A41 1
part 39 pins: A42 1
part 40 pins: A43 1
part 41 pins: A44 1
part 42 pins: A45 1
part 43 pins: A46 1
part 44 pins: A47 1
part 45 pins: B1 1
part 46 pins: C1 1
part 47 pins: D1 1
part 48 pins: E1 1
part 49 pins: B2 1
part 50 pins: B3 1
part 51 pins: B4 1
part 52 pins: B5 1
part 53 pins: B6 1
part 54 pins: B7 1
part 55 pins: B8 1
part 56 pins: B9 1
part 57 pins: B10 1
part 58 pins: B11 1
part 59 pins: B12 1
part 60 pins: B13 1
part 61 pins: B14 1
part 62 pins: B15 1
part 63 pins: B16 1
part 64 pins: B17 1
part 65 pins: B18 1
part 66 pins: B19 1
part 67 pins: B20 1
part 68 pins: B21 1
part 69 pins: B22 1
part 70 pins: B23 1
part 71 pins: B24 1
part 72 pins: B25 1
part 73 pins: B26 1
part 74 pins: B27 1
part 75 pins: B28 1
part 76 pins: B29 1
part 77 pins: B30 1
part 78 pins: B31 1
part 79 pins: B32 1
part 80 pins: B33 1
part 81 pins: B37 1
part 82 pins: B38 1
part 83 pins: B39 1
part 84 pins: B40 1
part 85 pins: B41 1
part 86 pins: B42 1
part 87 pins: B43 1
part 88 pins: B44 1
part 89 pins: B45 1
part 90 pins: B46 1
part 91 pins: B47 1
part 92 pins: C2 1
part 93 pins: C3 1
part 94 pins: C4 1
part 95 pins: C5 1
part 96 pins: C6 1
part 97 pins: C7 1
part 98 pins: C8 1
part 99 pins: C9 1
part 100 pins: C10 1
part 101 pins: C11 1
part 102 pins: C12 1
part 103 pins: C13 1
part 104 pins: C14 1
part 105 pins: C15 1
part 106 pins: C16 1
part 107 pins: C17 1
part 108 pins: C18 1
part 109 pins: C19 1
part 110 pins: C20 1
part 111 pins: C21 1
part 112 pins: C22 1
part 113 pins: C23 1
part 114 pins: C24 1
part 115 pins: C25 1
part 116 pins: C26 1
part 117 pins: C27 1
part 118 pins: C28 1
part 119 pins: C29 1
part 120 pins: C30 1
part 121 pins: C31 1
part 122 pins: C32 1
part 123 pins: C33 1
part 124 pins: C37 1
part 125 pins: C38 1
part 126 pins: C39 1
part 127 pins: C40 1
part 128 pins: C41 1
part 129 pins: C42 1
part 130 pins: C43 1
part 131 pins: C44 1
part 132 pins: C45 1
part 133 pins: C46 1
part 134 pins: C47 1
part 135 pins: D2 1
part 136 pins: D3 1
part 137 pins: D4 1
part 138 pins: D5 1
part 139 pins: D6 1
part 140 pins: D7 1
part 141 pins: D8 1
part 142 pins: D9 1
part 143 pins: D10 1
part 144 pins: D11 1
part 145 pins: D12 1
part 146 pins: D13 1
part 147 pins: D14 1
part 148 pins: D15 1
part 149 pins: D16 1
part 150 pins: D17 1
part 151 pins: D18 1
part 152 pins: D19 1
part 153 pins: D20 1
part 154 pins: D21 1
part 155 pins: D22 1
part 156 pins: D23 1
part 157 pins: D24 1
part 158 pins: D25 1
part 159 pins: D26 1
part 160 pins: D27 1
part 161 pins: D28 1
part 162 pins: D29 1
part 163 pins: D30 1
part 164 pins: D31 1
part 165 pins: D32 1
part 166 pins: D33 1
part 167 pins: D37 1
part 168 pins: D38 1
part 169 pins: D39 1
part 170 pins: D40 1
part 171 pins: D41 1
part 172 pins: D42 1
part 173 pins: D43 1
part 174 pins: D44 1
part 175 pins: D45 1
part 176 pins: D46 1
part 177 pins: D47 1
part 178 pins: E2 1
part 179 pins: E3 1
part 180 pins: E4 1
part 181 pins: E5 1
part 182 pins: E6 1
part 183 pins: E7 1
part 184 pins: E8 1
part 185 pins: E9 1
part 186 pins: E10 1
part 187 pins: E11 1
part 188 pins: E12 1
part 189 pins: E13 1
part 190 pins: E14 1
part 191 pins: E15 1
part 192 pins: E16 1
part 193 pins: E17 1
part 194 pins: E18 1
part 195 pins: E19 1
part 196 pins: E20 1
part 197 pins: E21 1
part 198 pins: E22 1
part 199 pins: E23 1
part 200 pins: E24 1
part 201 pins: E25 1
part 202 pins: E26 1
part 203 pins: E27 1
part 204 pins: E28 1
part 205 pins: E29 1
part 206 pins: E30 1
part 207 pins: E31 1
part 208 pins: E32 1
part 209 pins: E33 1
part 210 pins: E37 1
part 211 pins: E38 1
part 212 pins: E39 1
part 213 pins: E40 1
part 214 pins: E41 1
part 215 pins: E42 1
part 216 pins: E43 1
part 217 pins: E44 1
part 218 pins: E45 1
part 219 pins: E46 1
part 220 pins: E47 1

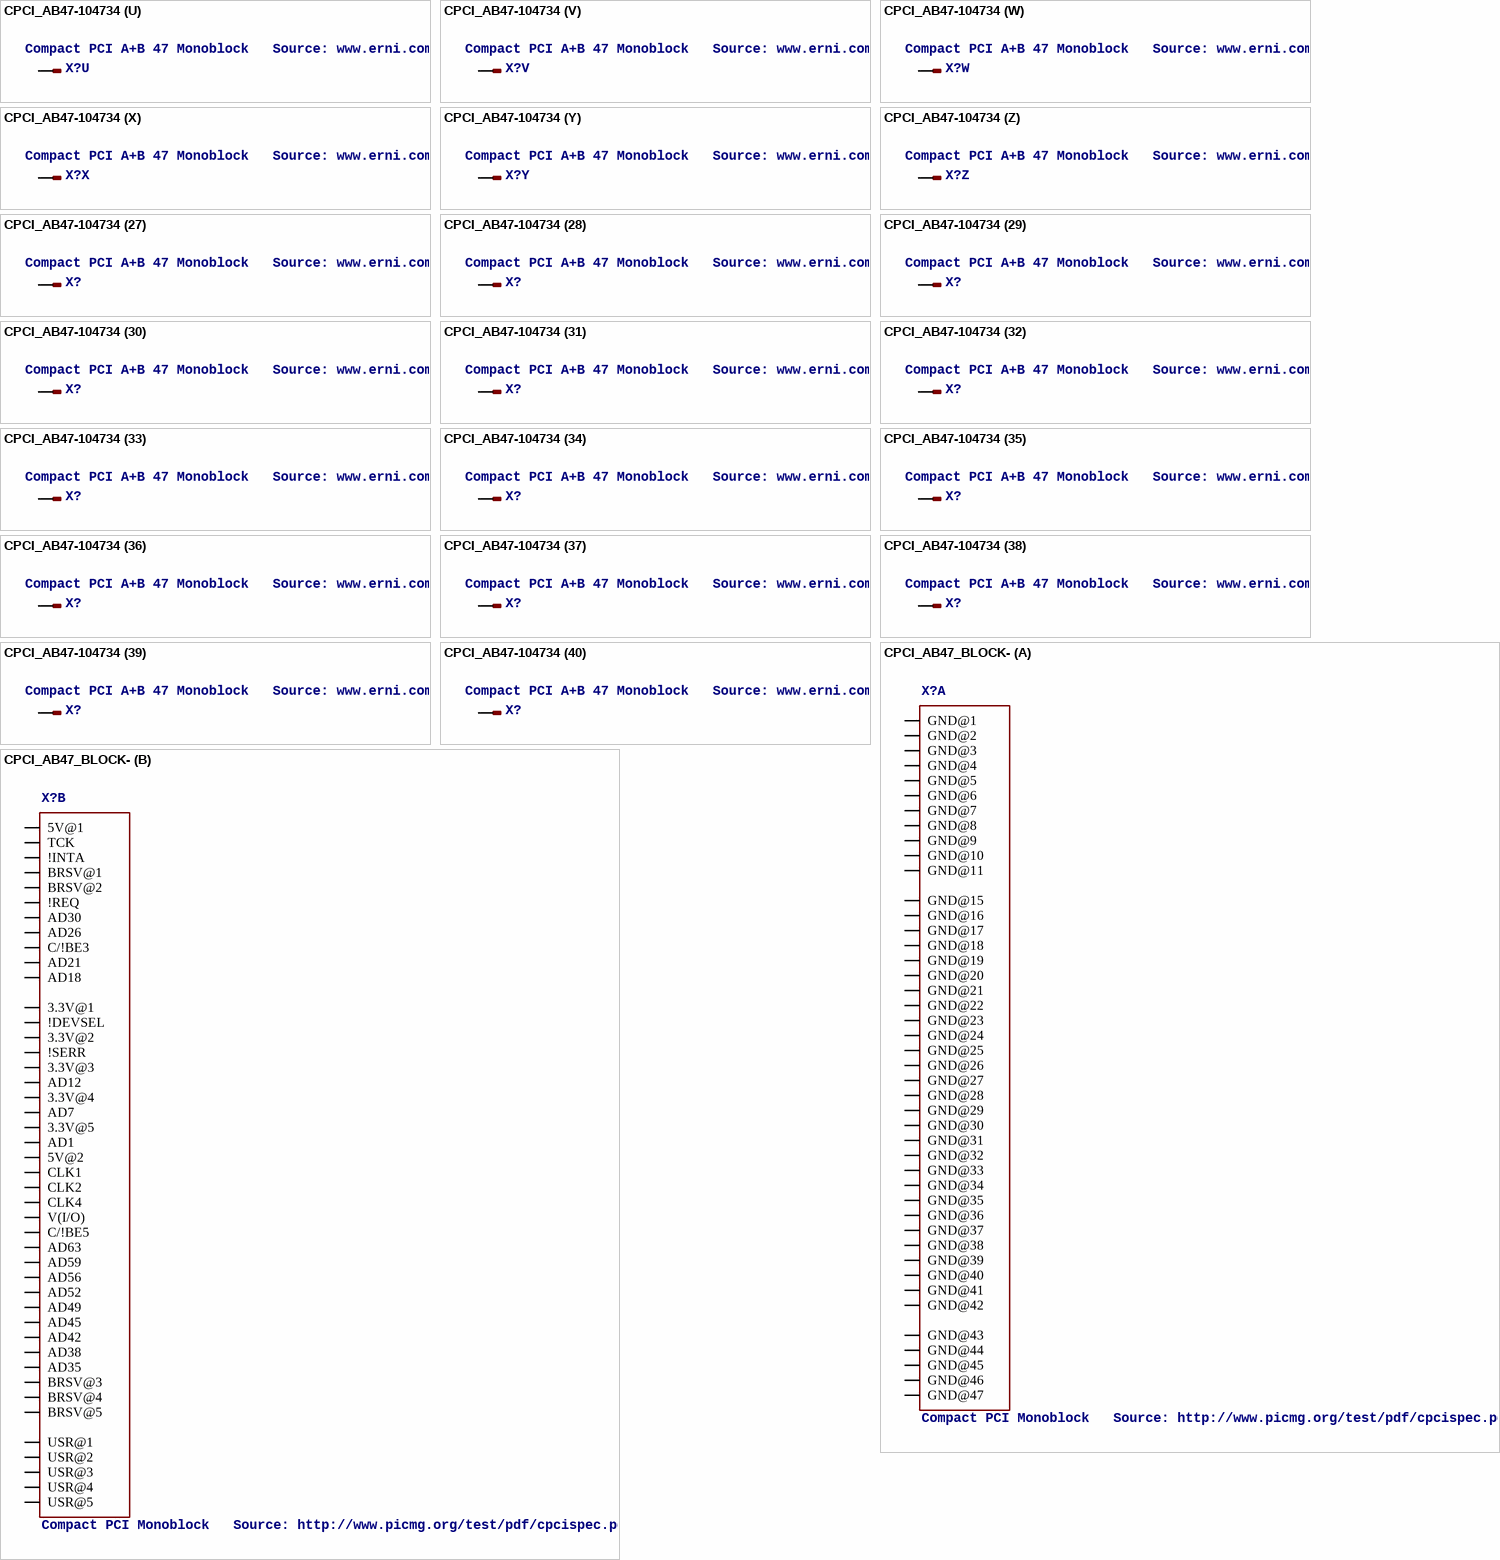
[diagram p10: symbols CPCI_AB47-104734 to CPCI_AB47_BLOCK-]

## CPCI_AB47-104734
designator X?, comment Compact PCI A+B 47 Monoblock   Source: www.erni.com
OC_FARNELL: unknown; OC_NEWARK: unknown
footprint 104734
part A pins: A1 1
part B pins: A2 1
part C pins: A3 1
part D pins: A4 1
part E pins: A5 1
part F pins: A6 1
part G pins: A7 1
part H pins: A8 1
part I pins: A9 1
part J pins: A10 1
part K pins: A11 1
part L pins: A12 1
part M pins: A13 1
part N pins: A14 1
part O pins: A15 1
part P pins: A16 1
part Q pins: A17 1
part R pins: A18 1
part S pins: A19 1
part T pins: A20 1
part U pins: A21 1
part V pins: A22 1
part W pins: A23 1
part X pins: A24 1
part Y pins: A25 1
part Z pins: A26 1
part 27 pins: A27 1
part 28 pins: A28 1
part 29 pins: A29 1
part 30 pins: A30 1
part 31 pins: A31 1
part 32 pins: A32 1
part 33 pins: A33 1
part 34 pins: A37 1
part 35 pins: A38 1
part 36 pins: A39 1
part 37 pins: A40 1
part 38 pins: A41 1
part 39 pins: A42 1
part 40 pins: A43 1
part 41 pins: A44 1
part 42 pins: A45 1
part 43 pins: A46 1
part 44 pins: A47 1
part 45 pins: B1 1
part 46 pins: C1 1
part 47 pins: D1 1
part 48 pins: E1 1
part 49 pins: B2 1
part 50 pins: B3 1
part 51 pins: B4 1
part 52 pins: B5 1
part 53 pins: B6 1
part 54 pins: B7 1
part 55 pins: B8 1
part 56 pins: B9 1
part 57 pins: B10 1
part 58 pins: B11 1
part 59 pins: B12 1
part 60 pins: B13 1
part 61 pins: B14 1
part 62 pins: B15 1
part 63 pins: B16 1
part 64 pins: B17 1
part 65 pins: B18 1
part 66 pins: B19 1
part 67 pins: B20 1
part 68 pins: B21 1
part 69 pins: B22 1
part 70 pins: B23 1
part 71 pins: B24 1
part 72 pins: B25 1
part 73 pins: B26 1
part 74 pins: B27 1
part 75 pins: B28 1
part 76 pins: B29 1
part 77 pins: B30 1
part 78 pins: B31 1
part 79 pins: B32 1
part 80 pins: B33 1
part 81 pins: B37 1
part 82 pins: B38 1
part 83 pins: B39 1
part 84 pins: B40 1
part 85 pins: B41 1
part 86 pins: B42 1
part 87 pins: B43 1
part 88 pins: B44 1
part 89 pins: B45 1
part 90 pins: B46 1
part 91 pins: B47 1
part 92 pins: C2 1
part 93 pins: C3 1
part 94 pins: C4 1
part 95 pins: C5 1
part 96 pins: C6 1
part 97 pins: C7 1
part 98 pins: C8 1
part 99 pins: C9 1
part 100 pins: C10 1
part 101 pins: C11 1
part 102 pins: C12 1
part 103 pins: C13 1
part 104 pins: C14 1
part 105 pins: C15 1
part 106 pins: C16 1
part 107 pins: C17 1
part 108 pins: C18 1
part 109 pins: C19 1
part 110 pins: C20 1
part 111 pins: C21 1
part 112 pins: C22 1
part 113 pins: C23 1
part 114 pins: C24 1
part 115 pins: C25 1
part 116 pins: C26 1
part 117 pins: C27 1
part 118 pins: C28 1
part 119 pins: C29 1
part 120 pins: C30 1
part 121 pins: C31 1
part 122 pins: C32 1
part 123 pins: C33 1
part 124 pins: C37 1
part 125 pins: C38 1
part 126 pins: C39 1
part 127 pins: C40 1
part 128 pins: C41 1
part 129 pins: C42 1
part 130 pins: C43 1
part 131 pins: C44 1
part 132 pins: C45 1
part 133 pins: C46 1
part 134 pins: C47 1
part 135 pins: D2 1
part 136 pins: D3 1
part 137 pins: D4 1
part 138 pins: D5 1
part 139 pins: D6 1
part 140 pins: D7 1
part 141 pins: D8 1
part 142 pins: D9 1
part 143 pins: D10 1
part 144 pins: D11 1
part 145 pins: D12 1
part 146 pins: D13 1
part 147 pins: D14 1
part 148 pins: D15 1
part 149 pins: D16 1
part 150 pins: D17 1
part 151 pins: D18 1
part 152 pins: D19 1
part 153 pins: D20 1
part 154 pins: D21 1
part 155 pins: D22 1
part 156 pins: D23 1
part 157 pins: D24 1
part 158 pins: D25 1
part 159 pins: D26 1
part 160 pins: D27 1
part 161 pins: D28 1
part 162 pins: D29 1
part 163 pins: D30 1
part 164 pins: D31 1
part 165 pins: D32 1
part 166 pins: D33 1
part 167 pins: D37 1
part 168 pins: D38 1
part 169 pins: D39 1
part 170 pins: D40 1
part 171 pins: D41 1
part 172 pins: D42 1
part 173 pins: D43 1
part 174 pins: D44 1
part 175 pins: D45 1
part 176 pins: D46 1
part 177 pins: D47 1
part 178 pins: E2 1
part 179 pins: E3 1
part 180 pins: E4 1
part 181 pins: E5 1
part 182 pins: E6 1
part 183 pins: E7 1
part 184 pins: E8 1
part 185 pins: E9 1
part 186 pins: E10 1
part 187 pins: E11 1
part 188 pins: E12 1
part 189 pins: E13 1
part 190 pins: E14 1
part 191 pins: E15 1
part 192 pins: E16 1
part 193 pins: E17 1
part 194 pins: E18 1
part 195 pins: E19 1
part 196 pins: E20 1
part 197 pins: E21 1
part 198 pins: E22 1
part 199 pins: E23 1
part 200 pins: E24 1
part 201 pins: E25 1
part 202 pins: E26 1
part 203 pins: E27 1
part 204 pins: E28 1
part 205 pins: E29 1
part 206 pins: E30 1
part 207 pins: E31 1
part 208 pins: E32 1
part 209 pins: E33 1
part 210 pins: E37 1
part 211 pins: E38 1
part 212 pins: E39 1
part 213 pins: E40 1
part 214 pins: E41 1
part 215 pins: E42 1
part 216 pins: E43 1
part 217 pins: E44 1
part 218 pins: E45 1
part 219 pins: E46 1
part 220 pins: E47 1

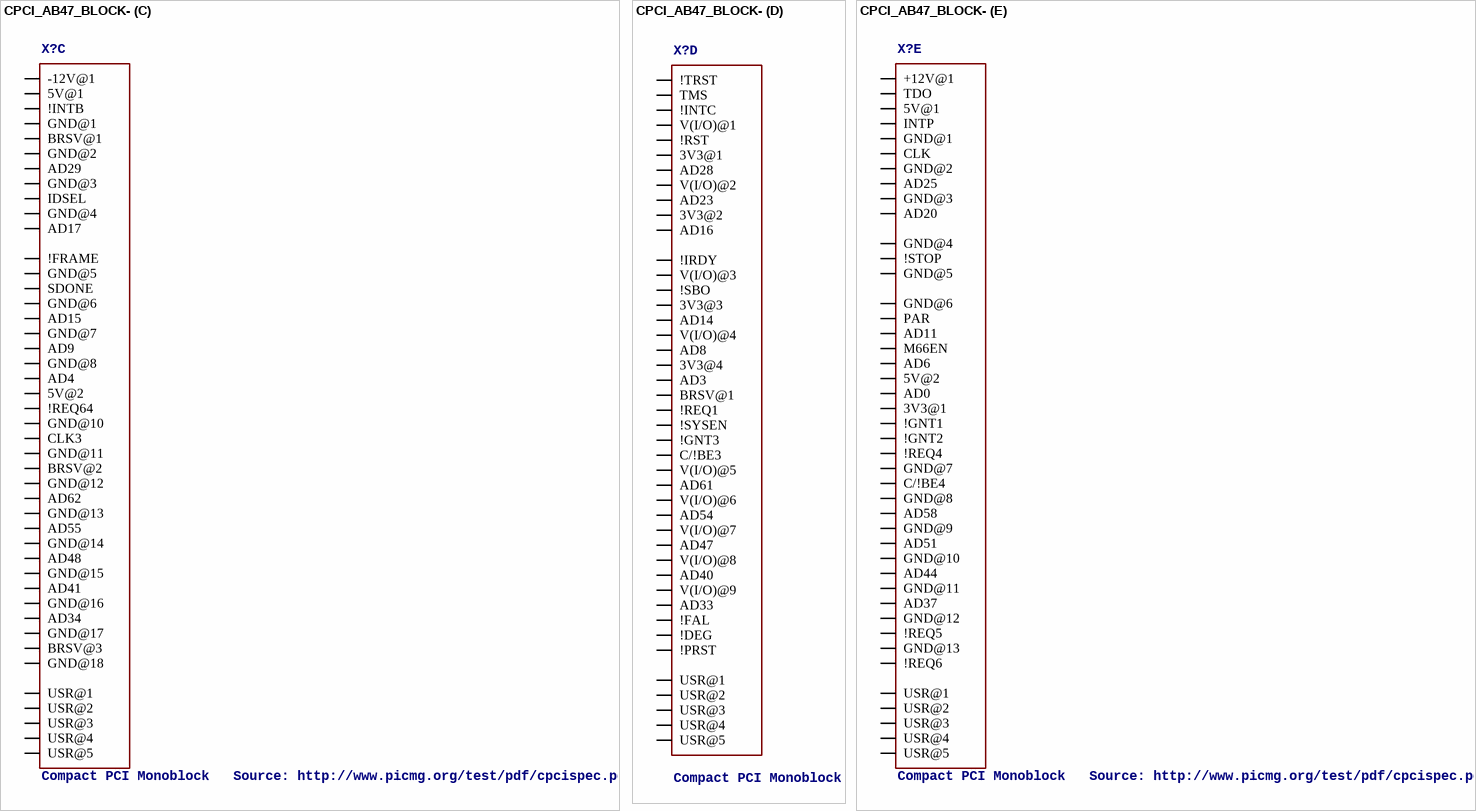
[diagram p11: symbol CPCI_AB47_BLOCK-]

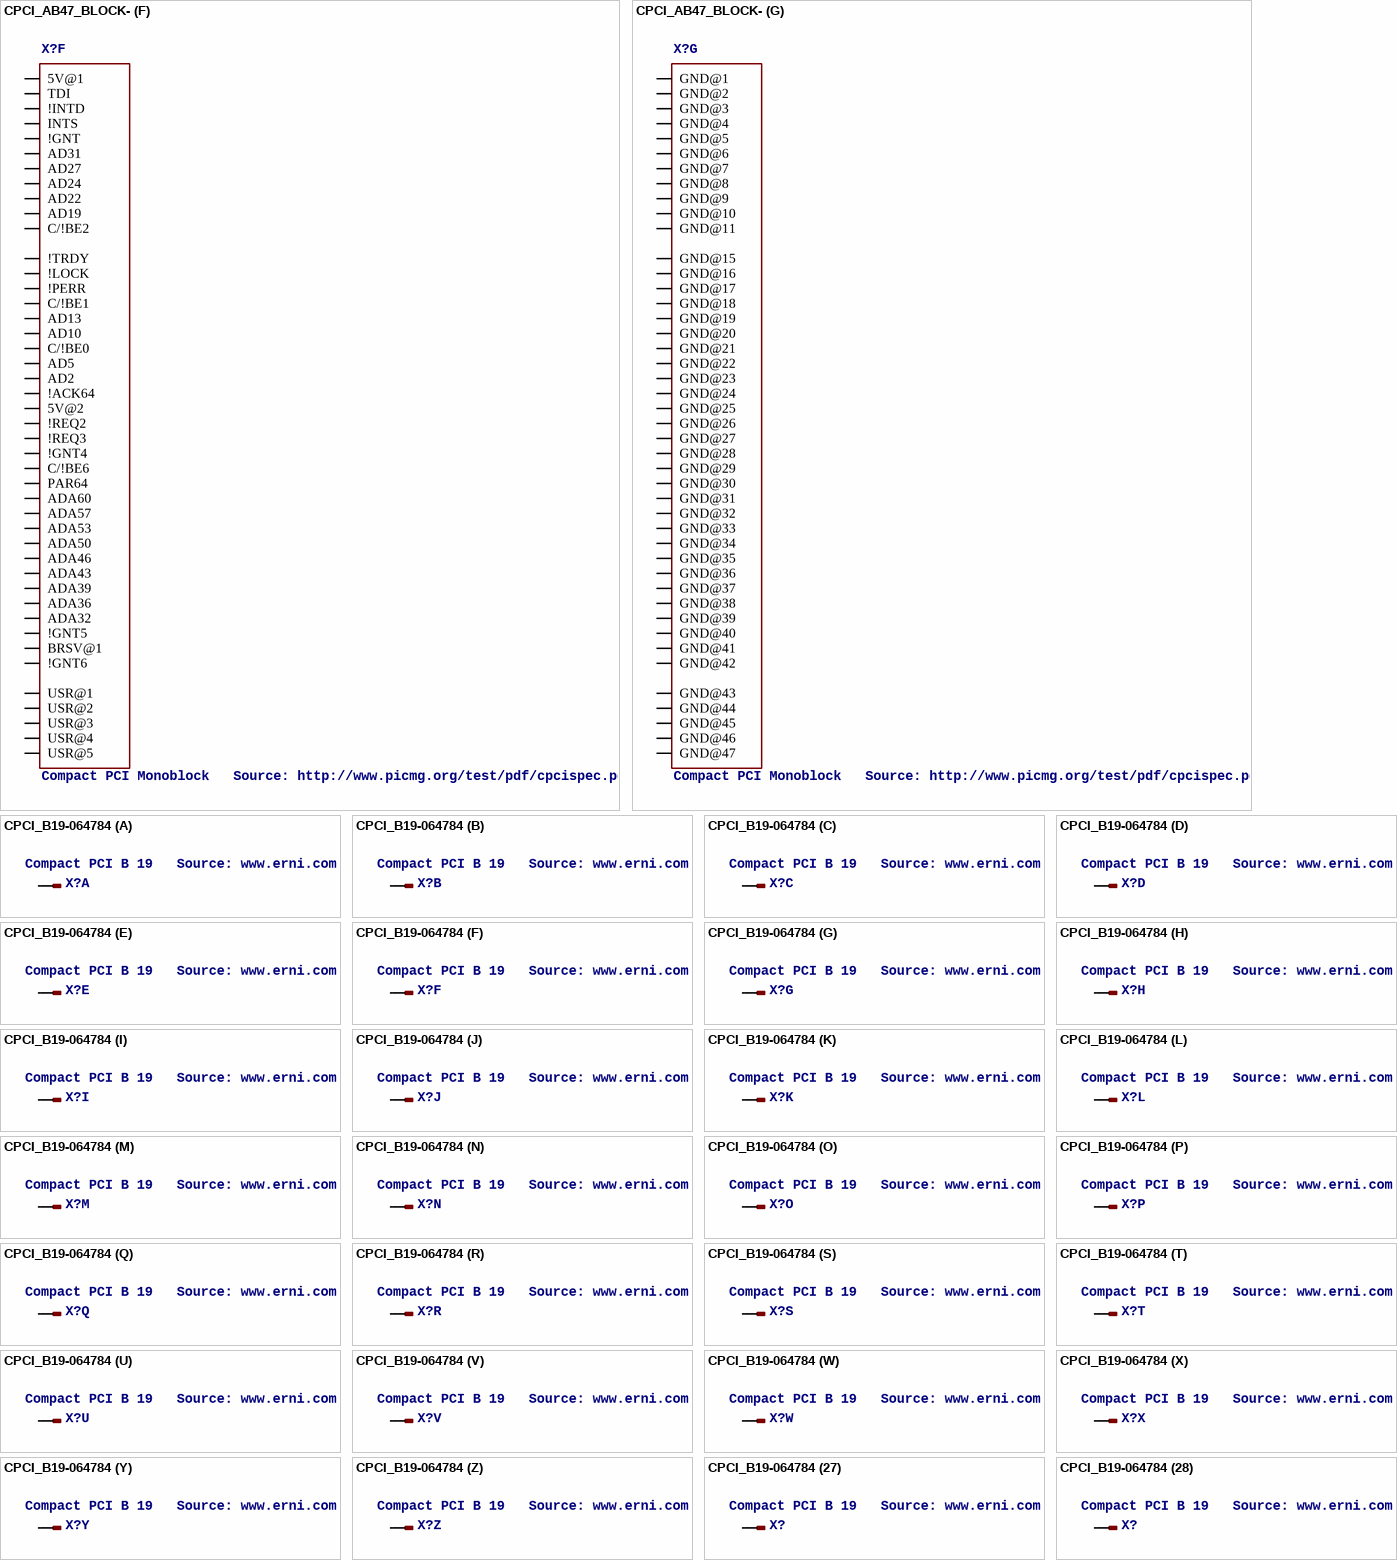
[diagram p12: symbols CPCI_AB47_BLOCK- to CPCI_B19-064784]

## CPCI_AB47_BLOCK-
designator X?, comment Compact PCI Monoblock   Source: http://www.picmg.org/test/pdf/cpcispec.pdf
OC_FARNELL: unknown; OC_NEWARK: unknown
footprint 104735
part A pins: ?1 GND@1 (power), ?2 GND@2 (power), ?3 GND@3 (power), ?4 GND@4 (power), ?5 GND@5 (power), ?6 GND@6 (power), ?7 GND@7 (power), ?8 GND@8 (power), ?9 GND@9 (power), ?10 GND@10 (power), ?11 GND@11 (power), ?12 GND@15 (power), ?13 GND@16 (power), ?14 GND@17 (power), ?15 GND@18 (power), ?16 GND@19 (power), ?17 GND@20 (power), ?18 GND@21 (power), ?19 GND@22 (power), ?20 GND@23 (power), ?21 GND@24 (power), ?22 GND@25 (power), ?23 GND@26 (power), ?24 GND@27 (power), ?25 GND@28 (power), ?26 GND@29 (power), ?27 GND@30 (power), ?28 GND@31 (power), ?29 GND@32 (power), ?30 GND@33 (power), ?31 GND@34 (power), ?32 GND@35 (power), ?33 GND@36 (power), ?34 GND@37 (power), ?35 GND@38 (power), ?36 GND@39 (power), ?37 GND@40 (power), ?38 GND@41 (power), ?39 GND@42 (power), ?40 GND@43 (power), ?41 GND@44 (power), ?42 GND@45 (power), ?43 GND@46 (power), ?44 GND@47 (power)
part B pins: ? 5V@1, ? TCK, ? !INTA, ? BRSV@1, ? BRSV@2, ? !REQ, ? AD30, ? AD26, ? C/!BE3, ? AD21, ? AD18, ? 3.3V@1, ? !DEVSEL, ? 3.3V@2, ? !SERR, ? 3.3V@3, ? AD12, ? 3.3V@4, ? AD7, ? 3.3V@5, ? AD1, ? 5V@2, ? CLK1, ? CLK2, ? CLK4, ? V(I/O), ? C/!BE5, ? AD63, ? AD59, ? AD56, ? AD52, ? AD49, ? AD45, ? AD42, ? AD38, ? AD35, ? BRSV@3, ? BRSV@4, ? BRSV@5, ? USR@1, ? USR@2, ? USR@3, ? USR@4, ? USR@5
part C pins: ? -12V@1, ? 5V@1, ? !INTB, ? GND@1, ? BRSV@1, ? GND@2, ? AD29, ? GND@3, ? IDSEL, ? GND@4, ? AD17, ? !FRAME, ? GND@5, ? SDONE, ? GND@6, ? AD15, ? GND@7, ? GND@8, ? 5V@2, ? GND@10, ? GND@11, ? GND@12, ? GND@13, ? GND@14, ? AD9, ? AD4, ? !REQ64, ? CLK3, ? BRSV@2, ? AD62, ? AD55, ? AD48, ? AD41, ? AD34, ? GND@15, ? GND@16, ? GND@17, ? GND@18, ? BRSV@3, ? USR@1, ? USR@2, ? USR@3, ? USR@4, ? USR@5
part D pins: ? USR@1, ? USR@2, ? USR@3, ? USR@4, ? USR@5, ? !TRST, ? TMS, ? !INTC, ? V(I/O)@1, ? !RST, ? 3V3@1, ? AD16, ? !IRDY, ? V(I/O)@2, ? V(I/O)@3, ? 3V3@2, ? 3V3@3, ? V(I/O)@4, ? !SBO, ? AD14, ? AD8, ? AD3, ? BRSV@1, ? !REQ1, ? !SYSEN, ? !GNT3, ? C/!BE3, ? V(I/O)@5, ? V(I/O)@6, ? V(I/O)@7, ? V(I/O)@8, ? V(I/O)@9, ? AD61, ? AD54, ? AD47, ? AD40, ? AD33, ? !FAL, ? !DEG, ? !PRST, ? AD28, ? AD23, ? 3V3@4
part E pins: ? +12V@1, ? USR@1, ? USR@2, ? USR@3, ? USR@4, ? USR@5, ? TDO, ? 5V@1, ? INTP, ? GND@1, ? CLK, ? GND@2, ? GND@3, ? AD25, ? AD20, ? GND@4, ? GND@5, ? GND@6, ? !STOP, ? PAR, ? AD11, ? M66EN, ? AD6, ? 5V@2, ? AD0, ? 3V3@1, ? !GNT1, ? !GNT2, ? !REQ4, ? GND@7, ? GND@8, ? GND@9, ? GND@10, ? GND@11, ? GND@12, ? GND@13, ? C/!BE4, ? AD58, ? AD51, ? AD44, ? AD37, ? !REQ5, ? !REQ6
part F pins: ? 5V@1, ? USR@1, ? USR@2, ? USR@3, ? USR@4, ? USR@5, ? TDI, ? !INTD, ? INTS, ? !GNT, ? AD31, ? AD27, ? AD24, ? AD22, ? AD19, ? C/!BE2, ? !TRDY, ? !LOCK, ? !PERR, ? C/!BE1, ? AD13, ? AD10, ? C/!BE0, ? AD5, ? AD2, ? !ACK64, ? 5V@2, ? !REQ2, ? !REQ3, ? !GNT4, ? C/!BE6, ? PAR64, ? ADA60, ? ADA57, ? ADA53, ? ADA50, ? ADA46, ? ADA43, ? ADA39, ? ADA36, ? ADA32, ? !GNT5, ? BRSV@1, ? !GNT6
part G pins: ? GND@1 (power), ? GND@2 (power), ? GND@3 (power), ? GND@4 (power), ? GND@5 (power), ? GND@6 (power), ? GND@7 (power), ? GND@8 (power), ? GND@9 (power), ? GND@10 (power), ? GND@11 (power), ? GND@15 (power), ? GND@16 (power), ? GND@17 (power), ? GND@18 (power), ? GND@19 (power), ? GND@20 (power), ? GND@21 (power), ? GND@22 (power), ? GND@23 (power), ? GND@24 (power), ? GND@25 (power), ? GND@26 (power), ? GND@27 (power), ? GND@28 (power), ? GND@29 (power), ? GND@30 (power), ? GND@31 (power), ? GND@32 (power), ? GND@33 (power), ? GND@34 (power), ? GND@35 (power), ? GND@36 (power), ? GND@37 (power), ? GND@38 (power), ? GND@39 (power), ? GND@40 (power), ? GND@41 (power), ? GND@42 (power), ? GND@43 (power), ? GND@44 (power), ? GND@45 (power), ? GND@46 (power), ? GND@47 (power)

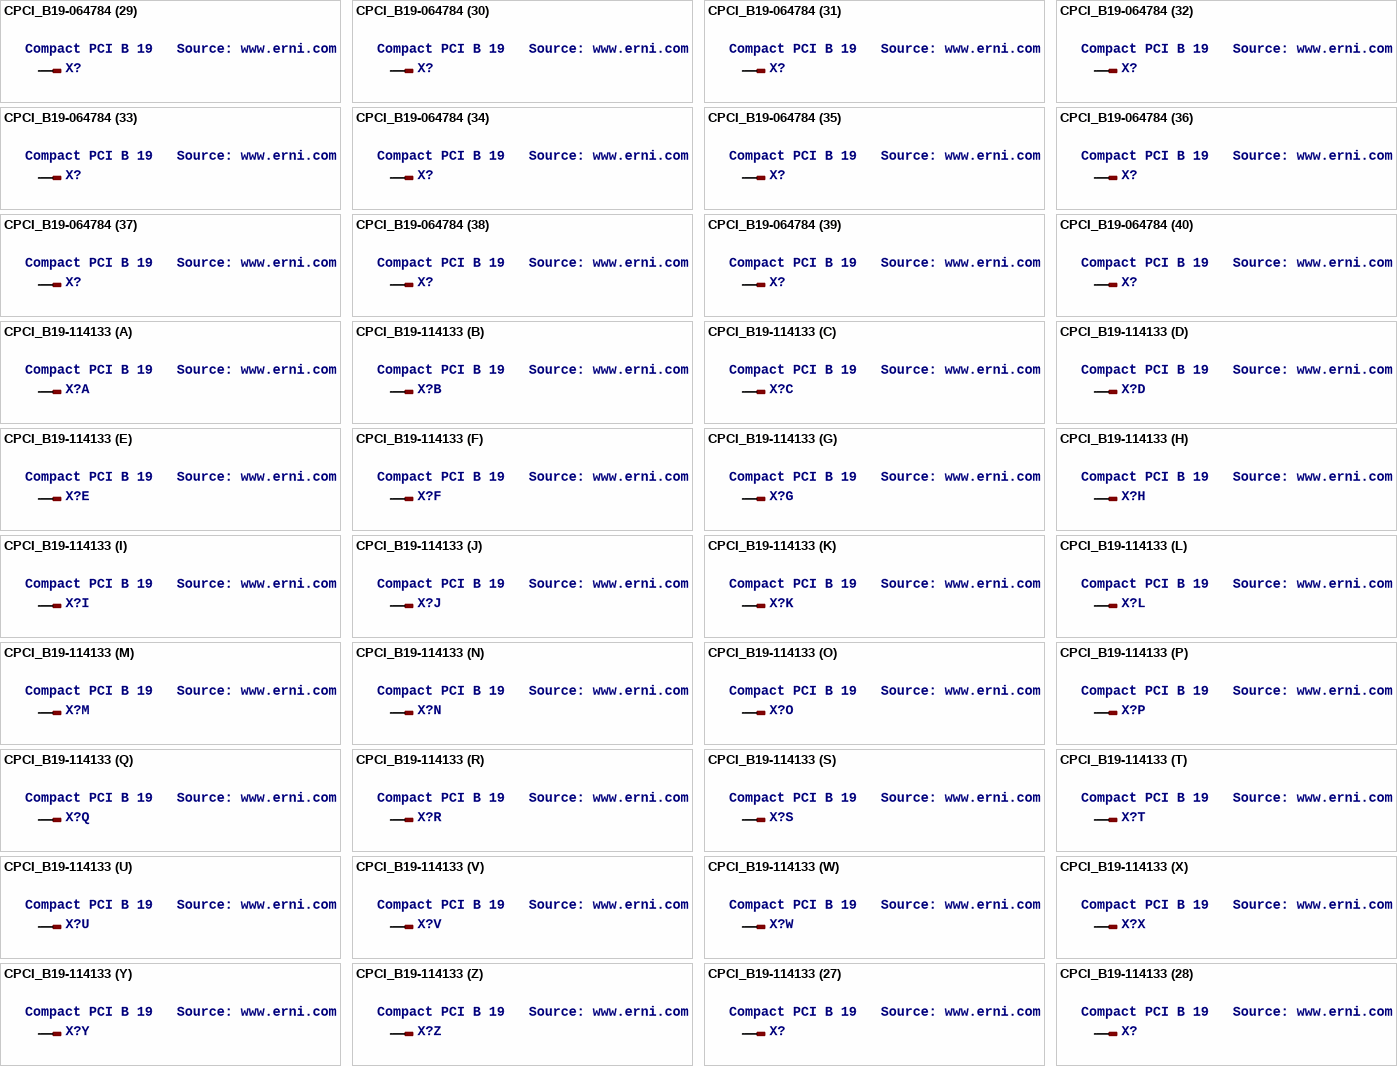
[diagram p13: symbols CPCI_B19-064784 to CPCI_B19-114133]

## CPCI_B19-064784
designator X?, comment Compact PCI B 19   Source: www.erni.com
OC_FARNELL: unknown; OC_NEWARK: unknown
footprint 064784
part A pins: A1 1
part B pins: B1 1
part C pins: C1 1
part D pins: D1 1
part E pins: E1 1
part F pins: A2 1
part G pins: A3 1
part H pins: A4 1
part I pins: A5 1
part J pins: A6 1
part K pins: A7 1
part L pins: A8 1
part M pins: A9 1
part N pins: A10 1
part O pins: A11 1
part P pins: A12 1
part Q pins: A13 1
part R pins: A14 1
part S pins: A15 1
part T pins: A16 1
part U pins: A17 1
part V pins: A18 1
part W pins: A19 1
part X pins: B2 1
part Y pins: B3 1
part Z pins: B4 1
part 27 pins: B5 1
part 28 pins: B6 1
part 29 pins: B7 1
part 30 pins: B8 1
part 31 pins: B9 1
part 32 pins: B10 1
part 33 pins: B11 1
part 34 pins: B12 1
part 35 pins: B13 1
part 36 pins: B14 1
part 37 pins: B15 1
part 38 pins: B16 1
part 39 pins: B17 1
part 40 pins: B18 1
part 41 pins: B19 1
part 42 pins: C2 1
part 43 pins: C3 1
part 44 pins: C4 1
part 45 pins: C5 1
part 46 pins: C6 1
part 47 pins: C7 1
part 48 pins: C8 1
part 49 pins: C9 1
part 50 pins: C10 1
part 51 pins: C11 1
part 52 pins: C12 1
part 53 pins: C13 1
part 54 pins: C14 1
part 55 pins: C15 1
part 56 pins: C16 1
part 57 pins: C17 1
part 58 pins: C18 1
part 59 pins: C19 1
part 60 pins: D2 1
part 61 pins: D3 1
part 62 pins: D4 1
part 63 pins: D5 1
part 64 pins: D6 1
part 65 pins: D7 1
part 66 pins: D8 1
part 67 pins: D9 1
part 68 pins: D10 1
part 69 pins: D11 1
part 70 pins: D12 1
part 71 pins: D13 1
part 72 pins: D14 1
part 73 pins: D15 1
part 74 pins: D16 1
part 75 pins: D17 1
part 76 pins: D18 1
part 77 pins: D19 1
part 78 pins: E2 1
part 79 pins: E3 1
part 80 pins: E4 1
part 81 pins: E5 1
part 82 pins: E6 1
part 83 pins: E7 1
part 84 pins: E8 1
part 85 pins: E9 1
part 86 pins: E10 1
part 87 pins: E11 1
part 88 pins: E12 1
part 89 pins: E13 1
part 90 pins: E14 1
part 91 pins: E15 1
part 92 pins: E16 1
part 93 pins: E17 1
part 94 pins: E18 1
part 95 pins: E19 1

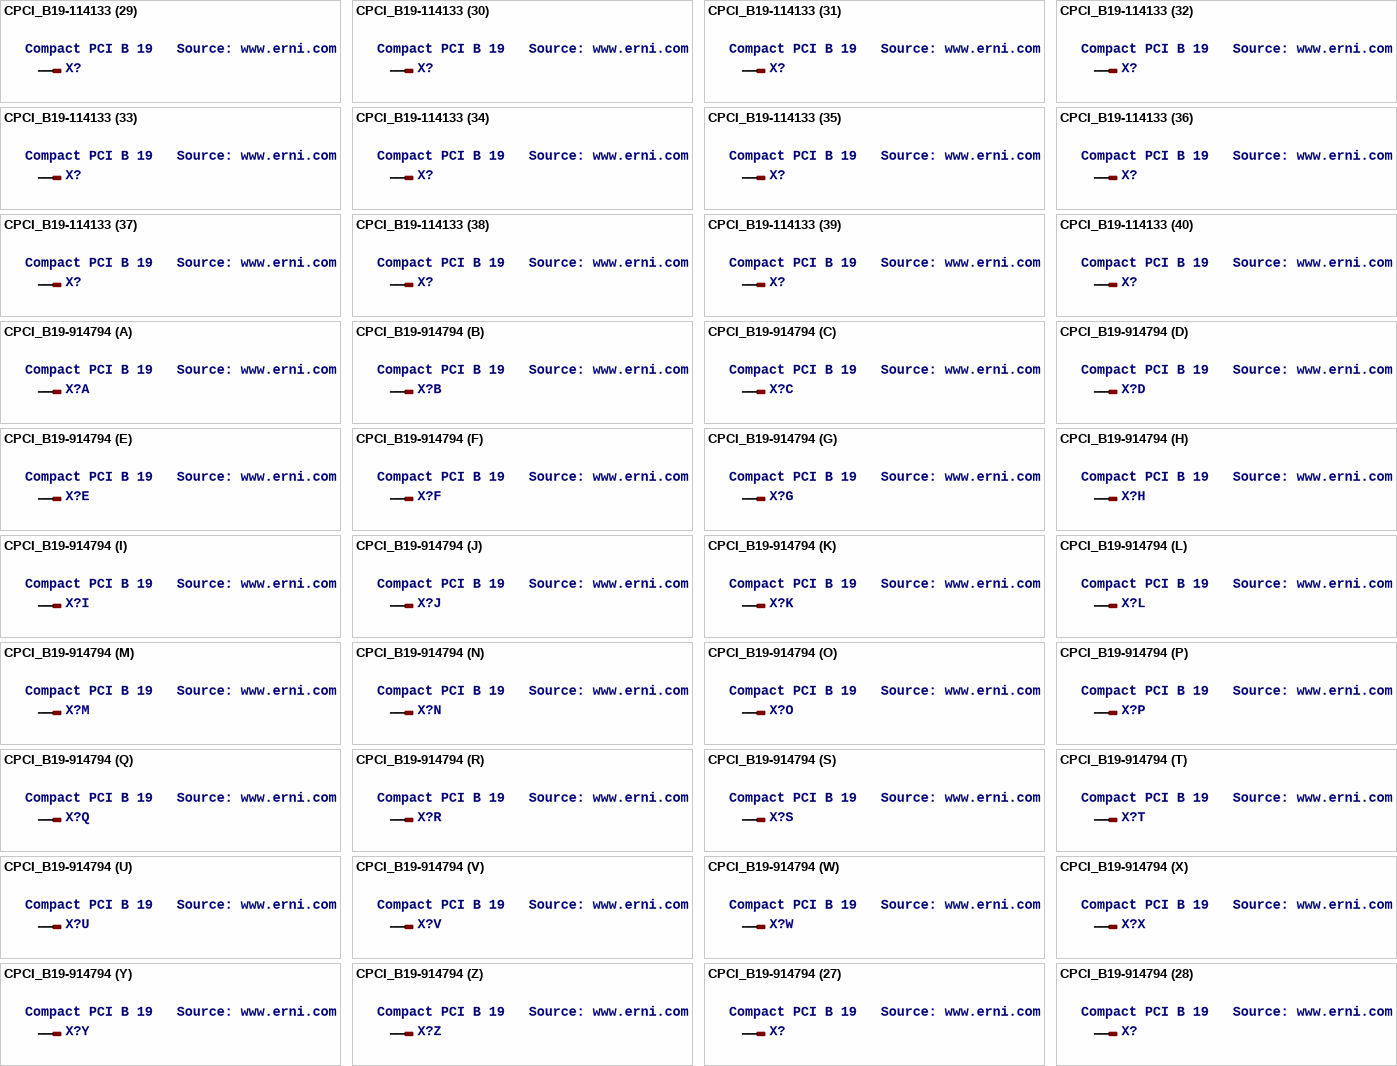
[diagram p14: symbols CPCI_B19-114133 to CPCI_B19-914794]

## CPCI_B19-114133
designator X?, comment Compact PCI B 19   Source: www.erni.com
OC_FARNELL: unknown; OC_NEWARK: unknown
footprint 114133
part A pins: A1 1
part B pins: B1 1
part C pins: C1 1
part D pins: D1 1
part E pins: E1 1
part F pins: A2 1
part G pins: A3 1
part H pins: A4 1
part I pins: A5 1
part J pins: A6 1
part K pins: A7 1
part L pins: A8 1
part M pins: A9 1
part N pins: A10 1
part O pins: A11 1
part P pins: A12 1
part Q pins: A13 1
part R pins: A14 1
part S pins: A15 1
part T pins: A16 1
part U pins: A17 1
part V pins: A18 1
part W pins: A19 1
part X pins: B2 1
part Y pins: B3 1
part Z pins: B4 1
part 27 pins: B5 1
part 28 pins: B6 1
part 29 pins: B7 1
part 30 pins: B8 1
part 31 pins: B9 1
part 32 pins: B10 1
part 33 pins: B11 1
part 34 pins: B12 1
part 35 pins: B13 1
part 36 pins: B14 1
part 37 pins: B15 1
part 38 pins: B16 1
part 39 pins: B17 1
part 40 pins: B18 1
part 41 pins: B19 1
part 42 pins: C2 1
part 43 pins: C3 1
part 44 pins: C4 1
part 45 pins: C5 1
part 46 pins: C6 1
part 47 pins: C7 1
part 48 pins: C8 1
part 49 pins: C9 1
part 50 pins: C10 1
part 51 pins: C11 1
part 52 pins: C12 1
part 53 pins: C13 1
part 54 pins: C14 1
part 55 pins: C15 1
part 56 pins: C16 1
part 57 pins: C17 1
part 58 pins: C18 1
part 59 pins: C19 1
part 60 pins: D2 1
part 61 pins: D3 1
part 62 pins: D4 1
part 63 pins: D5 1
part 64 pins: D6 1
part 65 pins: D7 1
part 66 pins: D8 1
part 67 pins: D9 1
part 68 pins: D10 1
part 69 pins: D11 1
part 70 pins: D12 1
part 71 pins: D13 1
part 72 pins: D14 1
part 73 pins: D15 1
part 74 pins: D16 1
part 75 pins: D17 1
part 76 pins: D18 1
part 77 pins: D19 1
part 78 pins: E2 1
part 79 pins: E3 1
part 80 pins: E4 1
part 81 pins: E5 1
part 82 pins: E6 1
part 83 pins: E7 1
part 84 pins: E8 1
part 85 pins: E9 1
part 86 pins: E10 1
part 87 pins: E11 1
part 88 pins: E12 1
part 89 pins: E13 1
part 90 pins: E14 1
part 91 pins: E15 1
part 92 pins: E16 1
part 93 pins: E17 1
part 94 pins: E18 1
part 95 pins: E19 1

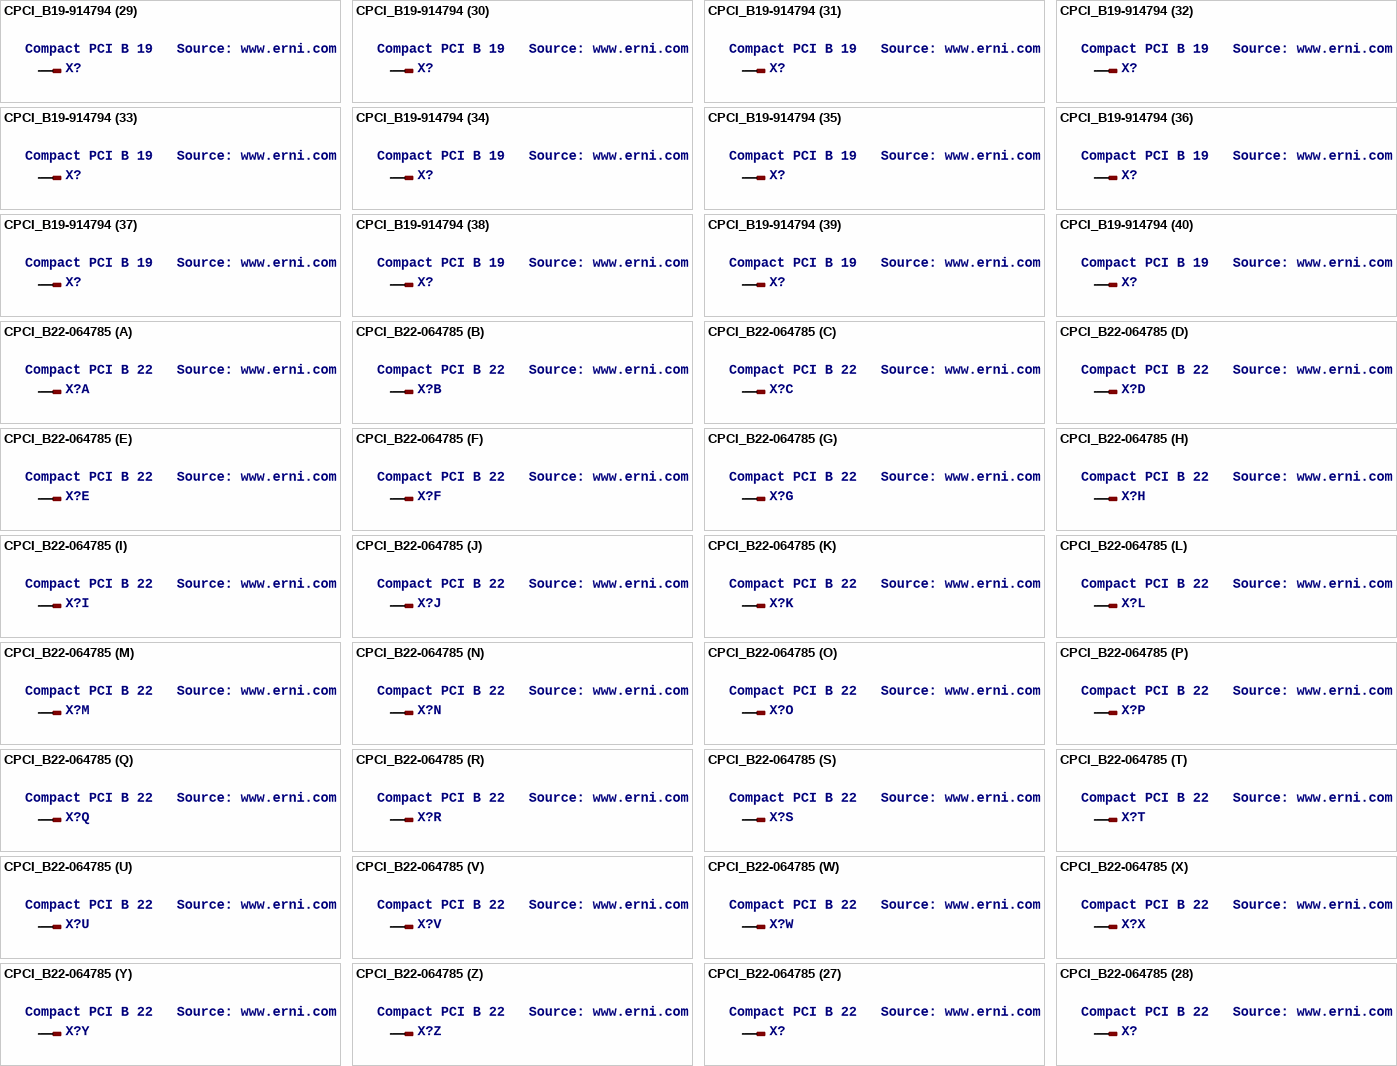
[diagram p15: symbols CPCI_B19-914794 to CPCI_B22-064785]

## CPCI_B19-914794
designator X?, comment Compact PCI B 19   Source: www.erni.com
OC_FARNELL: unknown; OC_NEWARK: unknown
footprint 914794
part A pins: A1 1
part B pins: B1 1
part C pins: C1 1
part D pins: D1 1
part E pins: E1 1
part F pins: A2 1
part G pins: A3 1
part H pins: A4 1
part I pins: A5 1
part J pins: A6 1
part K pins: A7 1
part L pins: A8 1
part M pins: A9 1
part N pins: A10 1
part O pins: A11 1
part P pins: A12 1
part Q pins: A13 1
part R pins: A14 1
part S pins: A15 1
part T pins: A16 1
part U pins: A17 1
part V pins: A18 1
part W pins: A19 1
part X pins: B2 1
part Y pins: B3 1
part Z pins: B4 1
part 27 pins: B5 1
part 28 pins: B6 1
part 29 pins: B7 1
part 30 pins: B8 1
part 31 pins: B9 1
part 32 pins: B10 1
part 33 pins: B11 1
part 34 pins: B12 1
part 35 pins: B13 1
part 36 pins: B14 1
part 37 pins: B15 1
part 38 pins: B16 1
part 39 pins: B17 1
part 40 pins: B18 1
part 41 pins: B19 1
part 42 pins: C2 1
part 43 pins: C3 1
part 44 pins: C4 1
part 45 pins: C5 1
part 46 pins: C6 1
part 47 pins: C7 1
part 48 pins: C8 1
part 49 pins: C9 1
part 50 pins: C10 1
part 51 pins: C11 1
part 52 pins: C12 1
part 53 pins: C13 1
part 54 pins: C14 1
part 55 pins: C15 1
part 56 pins: C16 1
part 57 pins: C17 1
part 58 pins: C18 1
part 59 pins: C19 1
part 60 pins: D2 1
part 61 pins: D3 1
part 62 pins: D4 1
part 63 pins: D5 1
part 64 pins: D6 1
part 65 pins: D7 1
part 66 pins: D8 1
part 67 pins: D9 1
part 68 pins: D10 1
part 69 pins: D11 1
part 70 pins: D12 1
part 71 pins: D13 1
part 72 pins: D14 1
part 73 pins: D15 1
part 74 pins: D16 1
part 75 pins: D17 1
part 76 pins: D18 1
part 77 pins: D19 1
part 78 pins: E2 1
part 79 pins: E3 1
part 80 pins: E4 1
part 81 pins: E5 1
part 82 pins: E6 1
part 83 pins: E7 1
part 84 pins: E8 1
part 85 pins: E9 1
part 86 pins: E10 1
part 87 pins: E11 1
part 88 pins: E12 1
part 89 pins: E13 1
part 90 pins: E14 1
part 91 pins: E15 1
part 92 pins: E16 1
part 93 pins: E17 1
part 94 pins: E18 1
part 95 pins: E19 1

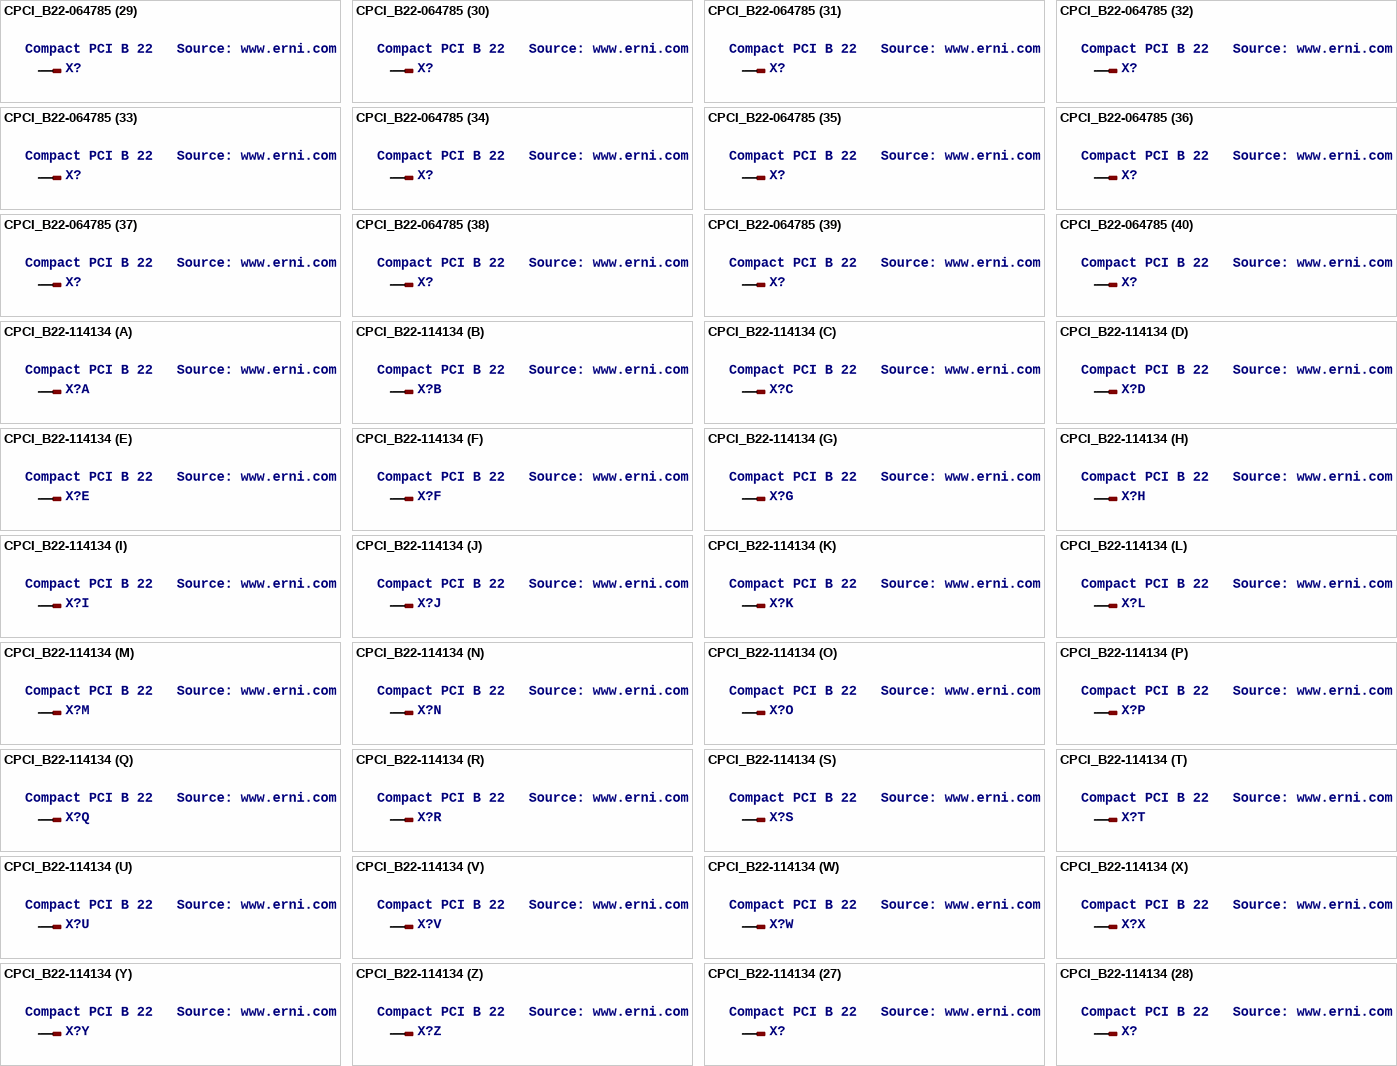
[diagram p16: symbols CPCI_B22-064785 to CPCI_B22-114134]

## CPCI_B22-064785
designator X?, comment Compact PCI B 22   Source: www.erni.com
OC_FARNELL: unknown; OC_NEWARK: unknown
footprint 064785
part A pins: A1 1
part B pins: B1 1
part C pins: C1 1
part D pins: D1 1
part E pins: E1 1
part F pins: A2 1
part G pins: A3 1
part H pins: A4 1
part I pins: A5 1
part J pins: A6 1
part K pins: A7 1
part L pins: A8 1
part M pins: A9 1
part N pins: A10 1
part O pins: A11 1
part P pins: A12 1
part Q pins: A13 1
part R pins: A14 1
part S pins: A15 1
part T pins: A16 1
part U pins: A17 1
part V pins: A18 1
part W pins: A19 1
part X pins: A20 1
part Y pins: A21 1
part Z pins: A22 1
part 27 pins: B2 1
part 28 pins: B3 1
part 29 pins: B4 1
part 30 pins: B5 1
part 31 pins: B6 1
part 32 pins: B7 1
part 33 pins: B8 1
part 34 pins: B9 1
part 35 pins: B10 1
part 36 pins: B11 1
part 37 pins: B12 1
part 38 pins: B13 1
part 39 pins: B14 1
part 40 pins: B15 1
part 41 pins: B16 1
part 42 pins: B17 1
part 43 pins: B18 1
part 44 pins: B19 1
part 45 pins: B20 1
part 46 pins: B21 1
part 47 pins: B22 1
part 48 pins: C2 1
part 49 pins: C3 1
part 50 pins: C4 1
part 51 pins: C5 1
part 52 pins: C6 1
part 53 pins: C7 1
part 54 pins: C8 1
part 55 pins: C9 1
part 56 pins: C10 1
part 57 pins: C11 1
part 58 pins: C12 1
part 59 pins: C13 1
part 60 pins: C14 1
part 61 pins: C15 1
part 62 pins: C16 1
part 63 pins: C17 1
part 64 pins: C18 1
part 65 pins: C19 1
part 66 pins: C20 1
part 67 pins: C21 1
part 68 pins: C22 1
part 69 pins: D2 1
part 70 pins: D3 1
part 71 pins: D4 1
part 72 pins: D5 1
part 73 pins: D6 1
part 74 pins: D7 1
part 75 pins: D8 1
part 76 pins: D9 1
part 77 pins: D10 1
part 78 pins: D11 1
part 79 pins: D12 1
part 80 pins: D13 1
part 81 pins: D14 1
part 82 pins: D15 1
part 83 pins: D16 1
part 84 pins: D17 1
part 85 pins: D18 1
part 86 pins: D19 1
part 87 pins: D20 1
part 88 pins: D21 1
part 89 pins: D22 1
part 90 pins: E2 1
part 91 pins: E3 1
part 92 pins: E4 1
part 93 pins: E5 1
part 94 pins: E6 1
part 95 pins: E7 1
part 96 pins: E8 1
part 97 pins: E9 1
part 98 pins: E10 1
part 99 pins: E11 1
part 100 pins: E12 1
part 101 pins: E13 1
part 102 pins: E14 1
part 103 pins: E15 1
part 104 pins: E16 1
part 105 pins: E17 1
part 106 pins: E18 1
part 107 pins: E19 1
part 108 pins: E20 1
part 109 pins: E21 1
part 110 pins: E22 1

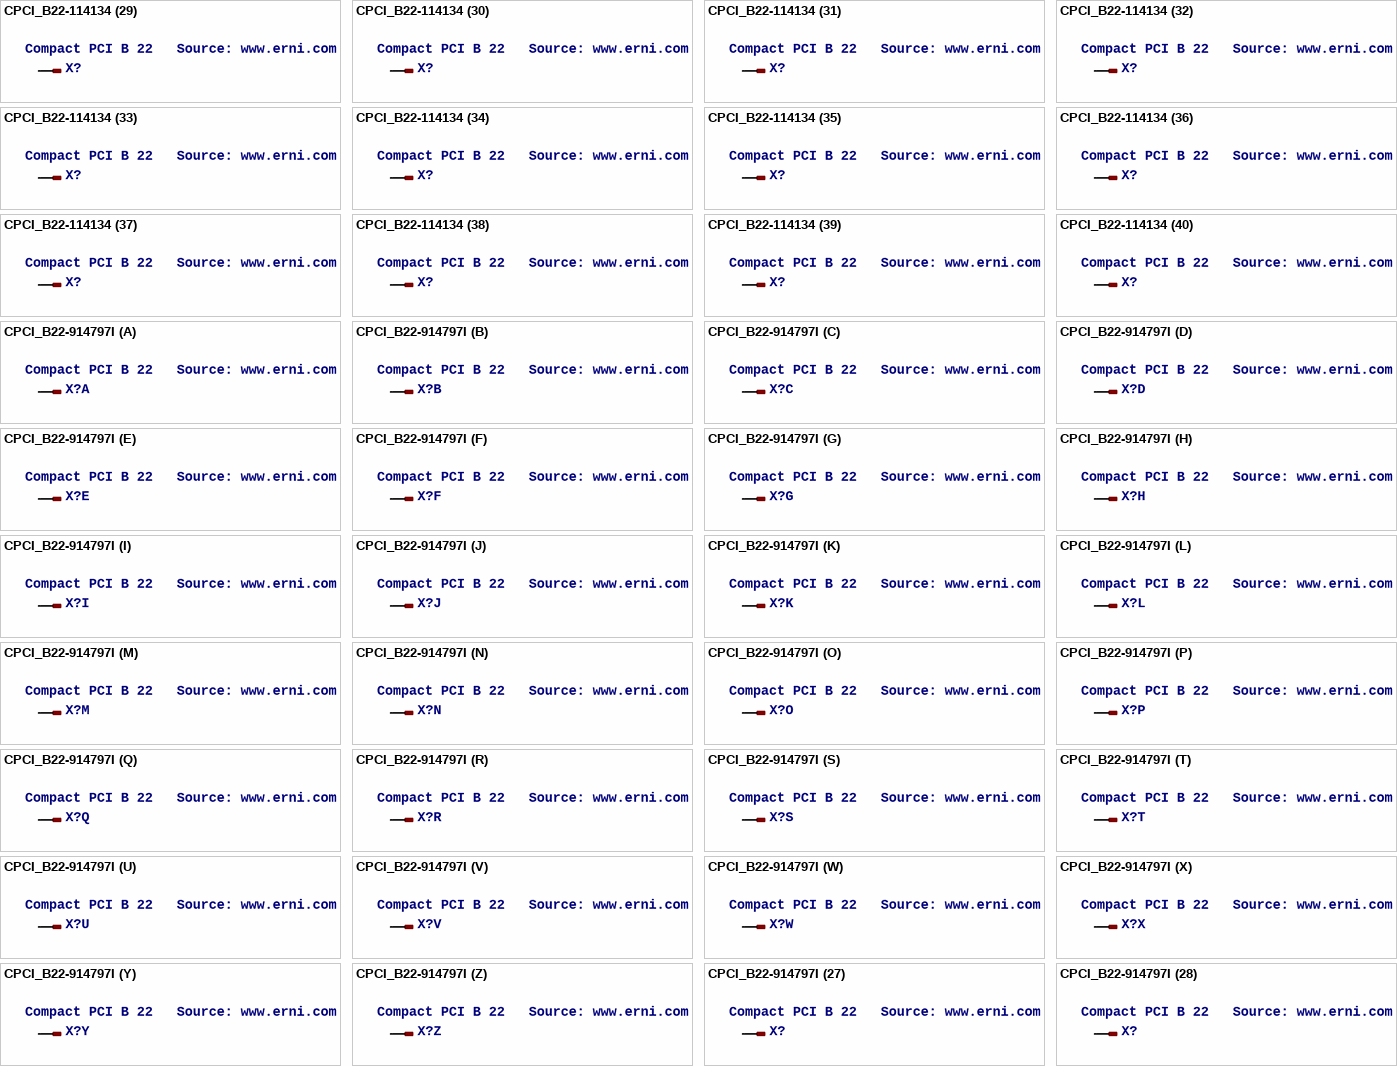
[diagram p17: symbols CPCI_B22-114134 to CPCI_B22-914797I]